# Altium integrated library Motorola Microcontroller 16-Bit.IntLib: 323 symbols (part 7 of 22)
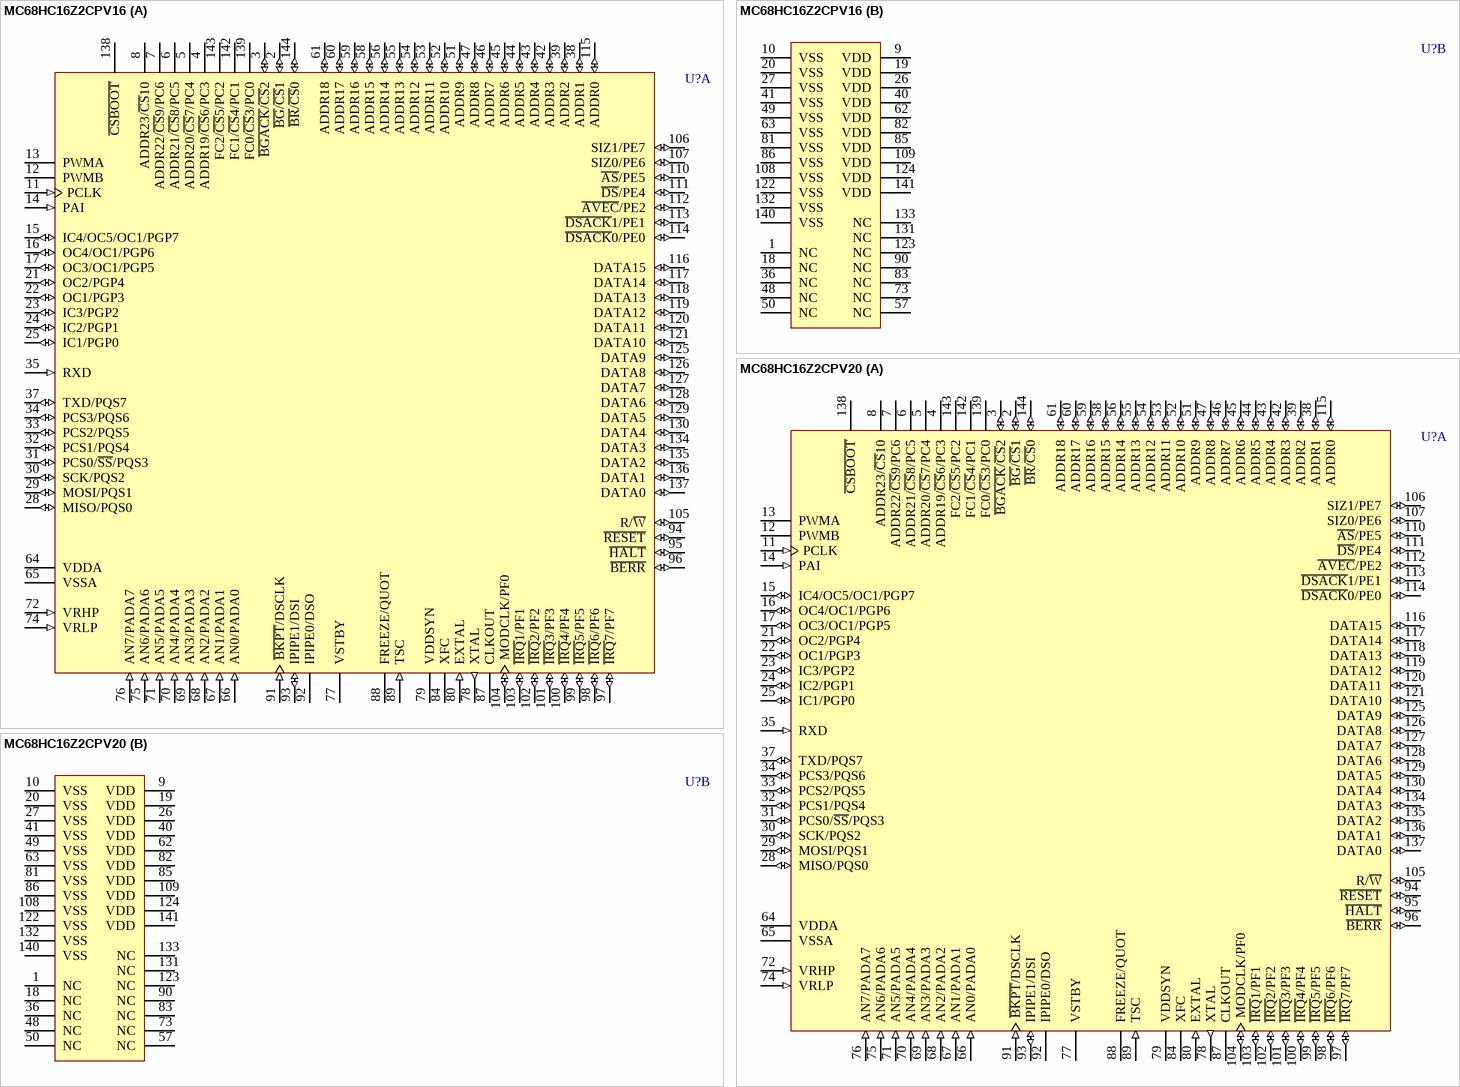
[diagram p147: symbols MC68HC16Z2CPV16 to MC68HC16Z2CPV20]

## MC68HC16Z2CPV16
designator U?
M68HC16 Z-Series MCU; Published: 21-Mar-2003; LatestRevisionDate: 13-Apr-2006; LatestRevisionNote: IPC-7351 Footprint Added.; DatasheetVersion: Oct-1997; PackageVersion: 1997; PackageReference: 918; Publisher: Altium Limited; PackageDescription: 144-Pin Thin Quad Flat Pack 0.5 mm Pitch; ComponentLink1Description: Manufacturer Link; ComponentLink1URL: http://www.freescale.com/; ComponentLink2Description: Datasheet; ComponentLink2URL: http://www.freescale.com/files/microcontrollers/doc/user_guide/MC68HC16ZUM.pdf; ComponentLink3Description: Instruction Set; ComponentLink3URL: http://www.freescale.com/files/microcontrollers/doc/ref_manual/CPU16RM.pdf
footprint 918_N (Thin QFP, 144-Leads, Body 20x20mm, Pitch 0.5mm, IPC Medium Density)
footprint 918_L (Thin QFP, 144-Leads, Body 20x20mm, Pitch 0.5mm, IPC High Density)
footprint 918_M (Thin QFP, 144-Leads, Body 20x20mm, Pitch 0.5mm, IPC Low Density)
3D model MC68HC16-918 (144-Pin Thin Quad Flat Pack 0.5 mm Pitch)
part A pins: 2 ~{BG}/~{CS}1 (io), 3 ~{BGACK}/~{CS}2 (io), 4 ADDR19/~{CS}6/PC3 (hiz), 5 ADDR20/~{CS}7/PC4 (hiz), 6 ADDR21/~{CS}8/PC5 (hiz), 7 ADDR22/~{CS}9/PC6 (hiz), 8 ADDR23/~{CS}10 (hiz), 11 PCLK (in), 12 PWMB (hiz), 13 PWMA (hiz), 14 PAI (in), 15 IC4/OC5/OC1/PGP7 (io), 16 OC4/OC1/PGP6 (io), 17 OC3/OC1/PGP5 (io), 21 OC2/PGP4 (io), 22 OC1/PGP3 (io), 23 IC3/PGP2 (io), 24 IC2/PGP1 (io), 25 IC1/PGP0 (io), 28 MISO/PQS0 (io), 29 MOSI/PQS1 (io), 30 SCK/PQS2 (io), 31 PCS0/~{SS}/PQS3 (io), 32 PCS1/PQS4 (io), 33 PCS2/PQS5 (io), 34 PCS3/PQS6 (io), 35 RXD (in), 37 TXD/PQS7 (io), 38 ADDR1 (io), 39 ADDR2 (io), 42 ADDR3 (io), 43 ADDR4 (io), 44 ADDR5 (io), 45 ADDR6 (io), 46 ADDR7 (io), 47 ADDR8 (io), 51 ADDR9 (io), 52 ADDR10 (io), 53 ADDR11 (io), 54 ADDR12 (io), 55 ADDR13 (io), 56 ADDR14 (io), 58 ADDR15 (io), 59 ADDR16 (io), 60 ADDR17 (io), 61 ADDR18 (io), 64 VDDA (power), 65 VSSA (power), 66 AN0/PADA0 (in), 67 AN1/PADA1 (in), 68 AN2/PADA2 (in), 69 AN3/PADA3 (in), 70 AN4/PADA4 (in), 71 AN5/PADA5 (in), 72 VRHP (in), 74 VRLP (in), 75 AN6/PADA6 (in), 76 AN7/PADA7 (in), 77 VSTBY (power), 78 XTAL (out), 79 VDDSYN (power), 80 EXTAL (in), 84 XFC, 87 CLKOUT (hiz), 88 FREEZE/QUOT (hiz), 89 TSC (in), 91 ~{BKPT}/DSCLK (in), 92 IPIPE0/DSO (hiz), 93 IPIPE1/DSI (io), 94 ~{RESET} (io), 95 ~{HALT} (io), 96 ~{BERR} (io), 97 ~{IRQ}7/PF7 (io), 98 ~{IRQ}6/PF6 (io), 99 ~{IRQ}5/PF5 (io), 100 ~{IRQ}4/PF4 (io), 101 ~{IRQ}3/PF3 (io), 102 ~{IRQ}2/PF2 (io), 103 ~{IRQ}1/PF1 (io), 104 MODCLK/PF0 (io), 105 R/~{W} (io), 106 SIZ1/PE7 (io), 107 SIZ0/PE6 (io), 110 ~{AS}/PE5 (io), 111 ~{DS}/PE4 (io), 112 ~{AVEC}/PE2 (io), 113 ~{DSACK}1/PE1 (io), 114 ~{DSACK}0/PE0 (io), 115 ADDR0 (io), 116 DATA15 (io), 117 DATA14 (io), 118 DATA13 (io), 119 DATA12 (io), 120 DATA11 (io), 121 DATA10 (io), 125 DATA9 (io), 126 DATA8 (io), 127 DATA7 (io), 128 DATA6 (io), 129 DATA5 (io), 130 DATA4 (io), 134 DATA3 (io), 135 DATA2 (io), 136 DATA1 (io), 137 DATA0 (io), 138 ~{CSBOOT} (hiz), 139 FC0/~{CS}3/PC0 (hiz), 142 FC1/~{CS}4/PC1 (hiz), 143 FC2/~{CS}5/PC2 (hiz), 144 ~{BR}/~{CS}0 (io)
part B pins: 1 NC, 9 VDD (power), 10 VSS (power), 18 NC, 19 VDD (power), 20 VSS (power), 26 VDD (power), 27 VSS (power), 36 NC, 40 VDD (power), 41 VSS (power), 48 NC, 49 VSS (power), 50 NC, 57 NC, 62 VDD (power), 63 VSS (power), 73 NC, 81 VSS (power), 82 VDD (power), 83 NC, 85 VDD (power), 86 VSS (power), 90 NC, 108 VSS (power), 109 VDD (power), 122 VSS (power), 123 NC, 124 VDD (power), 131 NC, 132 VSS (power), 133 NC, 140 VSS (power), 141 VDD (power)

## MC68HC16Z2CPV20
designator U?
M68HC16 Z-Series MCU; Published: 21-Mar-2003; LatestRevisionDate: 13-Apr-2006; LatestRevisionNote: IPC-7351 Footprint Added.; DatasheetVersion: Oct-1997; PackageVersion: 1997; PackageReference: 918; Publisher: Altium Limited; PackageDescription: 144-Pin Thin Quad Flat Pack 0.5 mm Pitch; ComponentLink1Description: Manufacturer Link; ComponentLink1URL: http://www.freescale.com/; ComponentLink2Description: Datasheet; ComponentLink2URL: http://www.freescale.com/files/microcontrollers/doc/user_guide/MC68HC16ZUM.pdf; ComponentLink3Description: Instruction Set; ComponentLink3URL: http://www.freescale.com/files/microcontrollers/doc/ref_manual/CPU16RM.pdf
footprint 918_N (Thin QFP, 144-Leads, Body 20x20mm, Pitch 0.5mm, IPC Medium Density)
footprint 918_L (Thin QFP, 144-Leads, Body 20x20mm, Pitch 0.5mm, IPC High Density)
footprint 918_M (Thin QFP, 144-Leads, Body 20x20mm, Pitch 0.5mm, IPC Low Density)
3D model MC68HC16-918 (144-Pin Thin Quad Flat Pack 0.5 mm Pitch)
part A pins: 2 ~{BG}/~{CS}1 (io), 3 ~{BGACK}/~{CS}2 (io), 4 ADDR19/~{CS}6/PC3 (hiz), 5 ADDR20/~{CS}7/PC4 (hiz), 6 ADDR21/~{CS}8/PC5 (hiz), 7 ADDR22/~{CS}9/PC6 (hiz), 8 ADDR23/~{CS}10 (hiz), 11 PCLK (in), 12 PWMB (hiz), 13 PWMA (hiz), 14 PAI (in), 15 IC4/OC5/OC1/PGP7 (io), 16 OC4/OC1/PGP6 (io), 17 OC3/OC1/PGP5 (io), 21 OC2/PGP4 (io), 22 OC1/PGP3 (io), 23 IC3/PGP2 (io), 24 IC2/PGP1 (io), 25 IC1/PGP0 (io), 28 MISO/PQS0 (io), 29 MOSI/PQS1 (io), 30 SCK/PQS2 (io), 31 PCS0/~{SS}/PQS3 (io), 32 PCS1/PQS4 (io), 33 PCS2/PQS5 (io), 34 PCS3/PQS6 (io), 35 RXD (in), 37 TXD/PQS7 (io), 38 ADDR1 (io), 39 ADDR2 (io), 42 ADDR3 (io), 43 ADDR4 (io), 44 ADDR5 (io), 45 ADDR6 (io), 46 ADDR7 (io), 47 ADDR8 (io), 51 ADDR9 (io), 52 ADDR10 (io), 53 ADDR11 (io), 54 ADDR12 (io), 55 ADDR13 (io), 56 ADDR14 (io), 58 ADDR15 (io), 59 ADDR16 (io), 60 ADDR17 (io), 61 ADDR18 (io), 64 VDDA (power), 65 VSSA (power), 66 AN0/PADA0 (in), 67 AN1/PADA1 (in), 68 AN2/PADA2 (in), 69 AN3/PADA3 (in), 70 AN4/PADA4 (in), 71 AN5/PADA5 (in), 72 VRHP (in), 74 VRLP (in), 75 AN6/PADA6 (in), 76 AN7/PADA7 (in), 77 VSTBY (power), 78 XTAL (out), 79 VDDSYN (power), 80 EXTAL (in), 84 XFC, 87 CLKOUT (hiz), 88 FREEZE/QUOT (hiz), 89 TSC (in), 91 ~{BKPT}/DSCLK (in), 92 IPIPE0/DSO (hiz), 93 IPIPE1/DSI (io), 94 ~{RESET} (io), 95 ~{HALT} (io), 96 ~{BERR} (io), 97 ~{IRQ}7/PF7 (io), 98 ~{IRQ}6/PF6 (io), 99 ~{IRQ}5/PF5 (io), 100 ~{IRQ}4/PF4 (io), 101 ~{IRQ}3/PF3 (io), 102 ~{IRQ}2/PF2 (io), 103 ~{IRQ}1/PF1 (io), 104 MODCLK/PF0 (io), 105 R/~{W} (io), 106 SIZ1/PE7 (io), 107 SIZ0/PE6 (io), 110 ~{AS}/PE5 (io), 111 ~{DS}/PE4 (io), 112 ~{AVEC}/PE2 (io), 113 ~{DSACK}1/PE1 (io), 114 ~{DSACK}0/PE0 (io), 115 ADDR0 (io), 116 DATA15 (io), 117 DATA14 (io), 118 DATA13 (io), 119 DATA12 (io), 120 DATA11 (io), 121 DATA10 (io), 125 DATA9 (io), 126 DATA8 (io), 127 DATA7 (io), 128 DATA6 (io), 129 DATA5 (io), 130 DATA4 (io), 134 DATA3 (io), 135 DATA2 (io), 136 DATA1 (io), 137 DATA0 (io), 138 ~{CSBOOT} (hiz), 139 FC0/~{CS}3/PC0 (hiz), 142 FC1/~{CS}4/PC1 (hiz), 143 FC2/~{CS}5/PC2 (hiz), 144 ~{BR}/~{CS}0 (io)
part B pins: 1 NC, 9 VDD (power), 10 VSS (power), 18 NC, 19 VDD (power), 20 VSS (power), 26 VDD (power), 27 VSS (power), 36 NC, 40 VDD (power), 41 VSS (power), 48 NC, 49 VSS (power), 50 NC, 57 NC, 62 VDD (power), 63 VSS (power), 73 NC, 81 VSS (power), 82 VDD (power), 83 NC, 85 VDD (power), 86 VSS (power), 90 NC, 108 VSS (power), 109 VDD (power), 122 VSS (power), 123 NC, 124 VDD (power), 131 NC, 132 VSS (power), 133 NC, 140 VSS (power), 141 VDD (power)

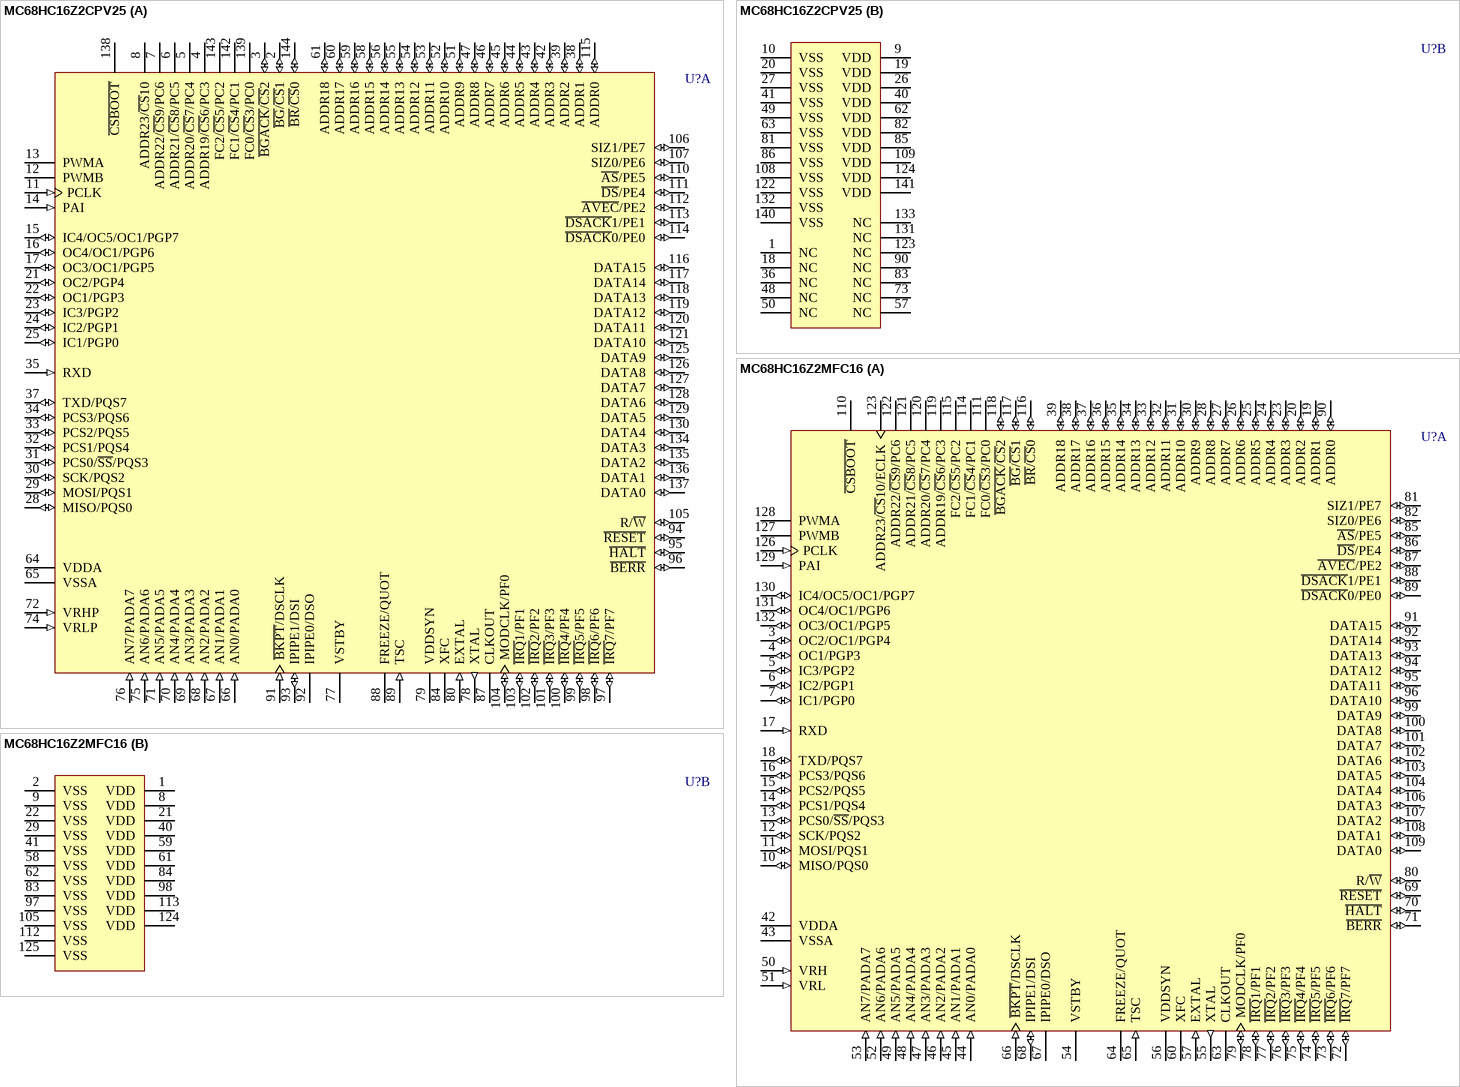
[diagram p30: symbols MC68HC16Z2CPV25 to MC68HC16Z2MFC16]

## MC68HC16Z2CPV25
designator U?
M68HC16 Z-Series MCU; Published: 21-Mar-2003; LatestRevisionDate: 13-Apr-2006; LatestRevisionNote: IPC-7351 Footprint Added.; DatasheetVersion: Oct-1997; PackageVersion: 1997; PackageReference: 918; Publisher: Altium Limited; PackageDescription: 144-Pin Thin Quad Flat Pack 0.5 mm Pitch; ComponentLink1Description: Manufacturer Link; ComponentLink1URL: http://www.freescale.com/; ComponentLink2Description: Datasheet; ComponentLink2URL: http://www.freescale.com/files/microcontrollers/doc/user_guide/MC68HC16ZUM.pdf; ComponentLink3Description: Instruction Set; ComponentLink3URL: http://www.freescale.com/files/microcontrollers/doc/ref_manual/CPU16RM.pdf
footprint 918_N (Thin QFP, 144-Leads, Body 20x20mm, Pitch 0.5mm, IPC Medium Density)
footprint 918_L (Thin QFP, 144-Leads, Body 20x20mm, Pitch 0.5mm, IPC High Density)
footprint 918_M (Thin QFP, 144-Leads, Body 20x20mm, Pitch 0.5mm, IPC Low Density)
3D model MC68HC16-918 (144-Pin Thin Quad Flat Pack 0.5 mm Pitch)
part A pins: 2 ~{BG}/~{CS}1 (io), 3 ~{BGACK}/~{CS}2 (io), 4 ADDR19/~{CS}6/PC3 (hiz), 5 ADDR20/~{CS}7/PC4 (hiz), 6 ADDR21/~{CS}8/PC5 (hiz), 7 ADDR22/~{CS}9/PC6 (hiz), 8 ADDR23/~{CS}10 (hiz), 11 PCLK (in), 12 PWMB (hiz), 13 PWMA (hiz), 14 PAI (in), 15 IC4/OC5/OC1/PGP7 (io), 16 OC4/OC1/PGP6 (io), 17 OC3/OC1/PGP5 (io), 21 OC2/PGP4 (io), 22 OC1/PGP3 (io), 23 IC3/PGP2 (io), 24 IC2/PGP1 (io), 25 IC1/PGP0 (io), 28 MISO/PQS0 (io), 29 MOSI/PQS1 (io), 30 SCK/PQS2 (io), 31 PCS0/~{SS}/PQS3 (io), 32 PCS1/PQS4 (io), 33 PCS2/PQS5 (io), 34 PCS3/PQS6 (io), 35 RXD (in), 37 TXD/PQS7 (io), 38 ADDR1 (io), 39 ADDR2 (io), 42 ADDR3 (io), 43 ADDR4 (io), 44 ADDR5 (io), 45 ADDR6 (io), 46 ADDR7 (io), 47 ADDR8 (io), 51 ADDR9 (io), 52 ADDR10 (io), 53 ADDR11 (io), 54 ADDR12 (io), 55 ADDR13 (io), 56 ADDR14 (io), 58 ADDR15 (io), 59 ADDR16 (io), 60 ADDR17 (io), 61 ADDR18 (io), 64 VDDA (power), 65 VSSA (power), 66 AN0/PADA0 (in), 67 AN1/PADA1 (in), 68 AN2/PADA2 (in), 69 AN3/PADA3 (in), 70 AN4/PADA4 (in), 71 AN5/PADA5 (in), 72 VRHP (in), 74 VRLP (in), 75 AN6/PADA6 (in), 76 AN7/PADA7 (in), 77 VSTBY (power), 78 XTAL (out), 79 VDDSYN (power), 80 EXTAL (in), 84 XFC, 87 CLKOUT (hiz), 88 FREEZE/QUOT (hiz), 89 TSC (in), 91 ~{BKPT}/DSCLK (in), 92 IPIPE0/DSO (hiz), 93 IPIPE1/DSI (io), 94 ~{RESET} (io), 95 ~{HALT} (io), 96 ~{BERR} (io), 97 ~{IRQ}7/PF7 (io), 98 ~{IRQ}6/PF6 (io), 99 ~{IRQ}5/PF5 (io), 100 ~{IRQ}4/PF4 (io), 101 ~{IRQ}3/PF3 (io), 102 ~{IRQ}2/PF2 (io), 103 ~{IRQ}1/PF1 (io), 104 MODCLK/PF0 (io), 105 R/~{W} (io), 106 SIZ1/PE7 (io), 107 SIZ0/PE6 (io), 110 ~{AS}/PE5 (io), 111 ~{DS}/PE4 (io), 112 ~{AVEC}/PE2 (io), 113 ~{DSACK}1/PE1 (io), 114 ~{DSACK}0/PE0 (io), 115 ADDR0 (io), 116 DATA15 (io), 117 DATA14 (io), 118 DATA13 (io), 119 DATA12 (io), 120 DATA11 (io), 121 DATA10 (io), 125 DATA9 (io), 126 DATA8 (io), 127 DATA7 (io), 128 DATA6 (io), 129 DATA5 (io), 130 DATA4 (io), 134 DATA3 (io), 135 DATA2 (io), 136 DATA1 (io), 137 DATA0 (io), 138 ~{CSBOOT} (hiz), 139 FC0/~{CS}3/PC0 (hiz), 142 FC1/~{CS}4/PC1 (hiz), 143 FC2/~{CS}5/PC2 (hiz), 144 ~{BR}/~{CS}0 (io)
part B pins: 1 NC, 9 VDD (power), 10 VSS (power), 18 NC, 19 VDD (power), 20 VSS (power), 26 VDD (power), 27 VSS (power), 36 NC, 40 VDD (power), 41 VSS (power), 48 NC, 49 VSS (power), 50 NC, 57 NC, 62 VDD (power), 63 VSS (power), 73 NC, 81 VSS (power), 82 VDD (power), 83 NC, 85 VDD (power), 86 VSS (power), 90 NC, 108 VSS (power), 109 VDD (power), 122 VSS (power), 123 NC, 124 VDD (power), 131 NC, 132 VSS (power), 133 NC, 140 VSS (power), 141 VDD (power)

## MC68HC16Z2MFC16
designator U?
M68HC16 Z-Series MCU; Published: 21-Mar-2003; DatasheetVersion: Oct-1997; PackageVersion: 1997; PackageReference: 831A-01; Publisher: Altium Limited; PackageDescription: PQFP; 132 Leads; Body 24 x 24 mm; Pitch 0.635 mm; ComponentLink1Description: Manufacturer Link; ComponentLink1URL: http://www.freescale.com/; ComponentLink2Description: Datasheet; ComponentLink2URL: http://www.freescale.com/files/microcontrollers/doc/user_guide/MC68HC16ZUM.pdf; ComponentLink3Description: Instruction Set; ComponentLink3URL: http://www.freescale.com/files/microcontrollers/doc/ref_manual/CPU16RM.pdf
footprint 831A-01 (PQFP; 132 Leads; Body 24 x 24 mm; Pitch 0.635 mm)
part A pins: 3 OC2/OC1/PGP4 (io), 4 OC1/PGP3 (io), 5 IC3/PGP2 (io), 6 IC2/PGP1 (io), 7 IC1/PGP0 (io), 10 MISO/PQS0 (io), 11 MOSI/PQS1 (io), 12 SCK/PQS2 (io), 13 PCS0/~{SS}/PQS3 (io), 14 PCS1/PQS4 (io), 15 PCS2/PQS5 (io), 16 PCS3/PQS6 (io), 17 RXD (in), 18 TXD/PQS7 (io), 19 ADDR1 (io), 20 ADDR2 (io), 23 ADDR3 (io), 24 ADDR4 (io), 25 ADDR5 (io), 26 ADDR6 (io), 27 ADDR7 (io), 28 ADDR8 (io), 30 ADDR9 (io), 31 ADDR10 (io), 32 ADDR11 (io), 33 ADDR12 (io), 34 ADDR13 (io), 35 ADDR14 (io), 36 ADDR15 (io), 37 ADDR16 (io), 38 ADDR17 (io), 39 ADDR18 (io), 42 VDDA (power), 43 VSSA (power), 44 AN0/PADA0 (in), 45 AN1/PADA1 (in), 46 AN2/PADA2 (in), 47 AN3/PADA3 (in), 48 AN4/PADA4 (in), 49 AN5/PADA5 (in), 50 VRH (in), 51 VRL (in), 52 AN6/PADA6 (in), 53 AN7/PADA7 (in), 54 VSTBY (power), 55 XTAL (out), 56 VDDSYN (power), 57 EXTAL (in), 60 XFC, 63 CLKOUT (hiz), 64 FREEZE/QUOT (hiz), 65 TSC (in), 66 ~{BKPT}/DSCLK (in), 67 IPIPE0/DSO (hiz), 68 IPIPE1/DSI (io), 69 ~{RESET} (io), 70 ~{HALT} (io), 71 ~{BERR} (io), 72 ~{IRQ}7/PF7 (io), 73 ~{IRQ}6/PF6 (io), 74 ~{IRQ}5/PF5 (io), 75 ~{IRQ}4/PF4 (io), 76 ~{IRQ}3/PF3 (io), 77 ~{IRQ}2/PF2 (io), 78 ~{IRQ}1/PF1 (io), 79 MODCLK/PF0 (io), 80 R/~{W} (io), 81 SIZ1/PE7 (io), 82 SIZ0/PE6 (io), 85 ~{AS}/PE5 (io), 86 ~{DS}/PE4 (io), 87 ~{AVEC}/PE2 (io), 88 ~{DSACK}1/PE1 (io), 89 ~{DSACK}0/PE0 (io), 90 ADDR0 (io), 91 DATA15 (io), 92 DATA14 (io), 93 DATA13 (io), 94 DATA12 (io), 95 DATA11 (io), 96 DATA10 (io), 99 DATA9 (io), 100 DATA8 (io), 101 DATA7 (io), 102 DATA6 (io), 103 DATA5 (io), 104 DATA4 (io), 106 DATA3 (io), 107 DATA2 (io), 108 DATA1 (io), 109 DATA0 (io), 110 ~{CSBOOT} (hiz), 111 FC0/~{CS}3/PC0 (hiz), 114 FC1/~{CS}4/PC1 (hiz), 115 FC2/~{CS}5/PC2 (hiz), 116 ~{BR}/~{CS}0 (io), 117 ~{BG}/~{CS}1 (io), 118 ~{BGACK}/~{CS}2 (io), 119 ADDR19/~{CS}6/PC3 (hiz), 120 ADDR20/~{CS}7/PC4 (hiz), 121 ADDR21/~{CS}8/PC5 (hiz), 122 ADDR22/~{CS}9/PC6 (hiz), 123 ADDR23/~{CS}10/ECLK (hiz), 126 PCLK (in), 127 PWMB (hiz), 128 PWMA (hiz), 129 PAI (in), 130 IC4/OC5/OC1/PGP7 (io), 131 OC4/OC1/PGP6 (io), 132 OC3/OC1/PGP5 (io)
part B pins: 1 VDD (power), 2 VSS (power), 8 VDD (power), 9 VSS (power), 21 VDD (power), 22 VSS (power), 29 VSS (power), 40 VDD (power), 41 VSS (power), 58 VSS (power), 59 VDD (power), 61 VDD (power), 62 VSS (power), 83 VSS (power), 84 VDD (power), 97 VSS (power), 98 VDD (power), 105 VSS (power), 112 VSS (power), 113 VDD (power), 124 VDD (power), 125 VSS (power)

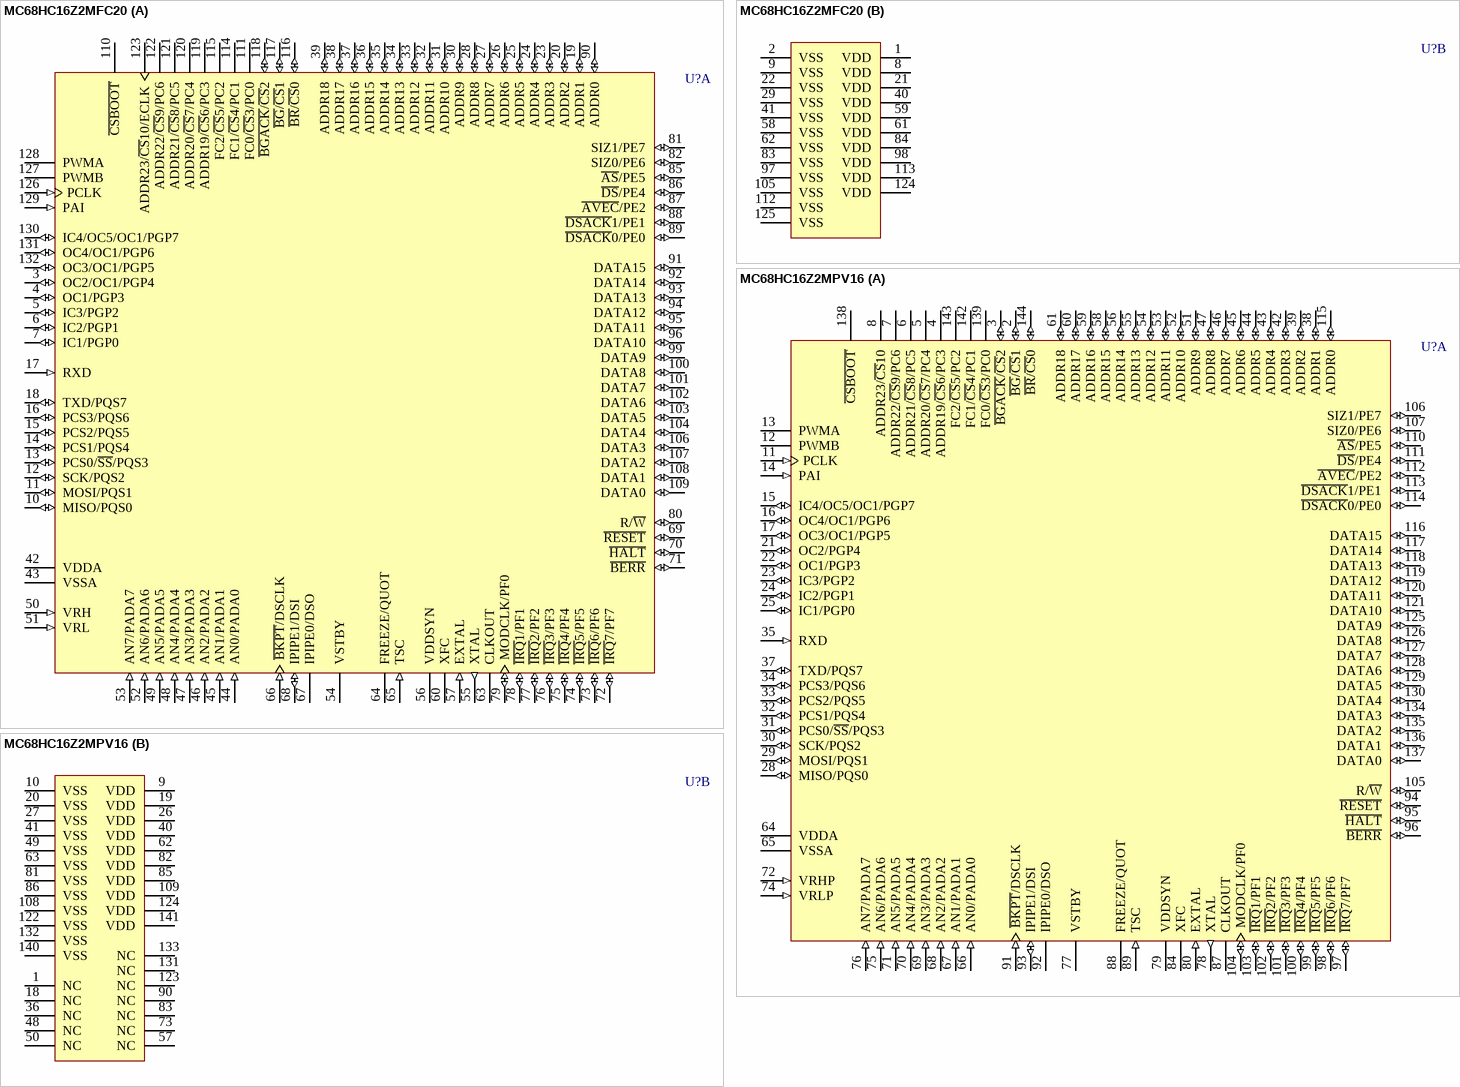
[diagram p31: symbols MC68HC16Z2MFC20 to MC68HC16Z2MPV16]

## MC68HC16Z2MFC20
designator U?
M68HC16 Z-Series MCU; Published: 21-Mar-2003; DatasheetVersion: Oct-1997; PackageVersion: 1997; PackageReference: 831A-01; Publisher: Altium Limited; PackageDescription: PQFP; 132 Leads; Body 24 x 24 mm; Pitch 0.635 mm; ComponentLink1Description: Manufacturer Link; ComponentLink1URL: http://www.freescale.com/; ComponentLink2Description: Datasheet; ComponentLink2URL: http://www.freescale.com/files/microcontrollers/doc/user_guide/MC68HC16ZUM.pdf; ComponentLink3Description: Instruction Set; ComponentLink3URL: http://www.freescale.com/files/microcontrollers/doc/ref_manual/CPU16RM.pdf
footprint 831A-01 (PQFP; 132 Leads; Body 24 x 24 mm; Pitch 0.635 mm)
part A pins: 3 OC2/OC1/PGP4 (io), 4 OC1/PGP3 (io), 5 IC3/PGP2 (io), 6 IC2/PGP1 (io), 7 IC1/PGP0 (io), 10 MISO/PQS0 (io), 11 MOSI/PQS1 (io), 12 SCK/PQS2 (io), 13 PCS0/~{SS}/PQS3 (io), 14 PCS1/PQS4 (io), 15 PCS2/PQS5 (io), 16 PCS3/PQS6 (io), 17 RXD (in), 18 TXD/PQS7 (io), 19 ADDR1 (io), 20 ADDR2 (io), 23 ADDR3 (io), 24 ADDR4 (io), 25 ADDR5 (io), 26 ADDR6 (io), 27 ADDR7 (io), 28 ADDR8 (io), 30 ADDR9 (io), 31 ADDR10 (io), 32 ADDR11 (io), 33 ADDR12 (io), 34 ADDR13 (io), 35 ADDR14 (io), 36 ADDR15 (io), 37 ADDR16 (io), 38 ADDR17 (io), 39 ADDR18 (io), 42 VDDA (power), 43 VSSA (power), 44 AN0/PADA0 (in), 45 AN1/PADA1 (in), 46 AN2/PADA2 (in), 47 AN3/PADA3 (in), 48 AN4/PADA4 (in), 49 AN5/PADA5 (in), 50 VRH (in), 51 VRL (in), 52 AN6/PADA6 (in), 53 AN7/PADA7 (in), 54 VSTBY (power), 55 XTAL (out), 56 VDDSYN (power), 57 EXTAL (in), 60 XFC, 63 CLKOUT (hiz), 64 FREEZE/QUOT (hiz), 65 TSC (in), 66 ~{BKPT}/DSCLK (in), 67 IPIPE0/DSO (hiz), 68 IPIPE1/DSI (io), 69 ~{RESET} (io), 70 ~{HALT} (io), 71 ~{BERR} (io), 72 ~{IRQ}7/PF7 (io), 73 ~{IRQ}6/PF6 (io), 74 ~{IRQ}5/PF5 (io), 75 ~{IRQ}4/PF4 (io), 76 ~{IRQ}3/PF3 (io), 77 ~{IRQ}2/PF2 (io), 78 ~{IRQ}1/PF1 (io), 79 MODCLK/PF0 (io), 80 R/~{W} (io), 81 SIZ1/PE7 (io), 82 SIZ0/PE6 (io), 85 ~{AS}/PE5 (io), 86 ~{DS}/PE4 (io), 87 ~{AVEC}/PE2 (io), 88 ~{DSACK}1/PE1 (io), 89 ~{DSACK}0/PE0 (io), 90 ADDR0 (io), 91 DATA15 (io), 92 DATA14 (io), 93 DATA13 (io), 94 DATA12 (io), 95 DATA11 (io), 96 DATA10 (io), 99 DATA9 (io), 100 DATA8 (io), 101 DATA7 (io), 102 DATA6 (io), 103 DATA5 (io), 104 DATA4 (io), 106 DATA3 (io), 107 DATA2 (io), 108 DATA1 (io), 109 DATA0 (io), 110 ~{CSBOOT} (hiz), 111 FC0/~{CS}3/PC0 (hiz), 114 FC1/~{CS}4/PC1 (hiz), 115 FC2/~{CS}5/PC2 (hiz), 116 ~{BR}/~{CS}0 (io), 117 ~{BG}/~{CS}1 (io), 118 ~{BGACK}/~{CS}2 (io), 119 ADDR19/~{CS}6/PC3 (hiz), 120 ADDR20/~{CS}7/PC4 (hiz), 121 ADDR21/~{CS}8/PC5 (hiz), 122 ADDR22/~{CS}9/PC6 (hiz), 123 ADDR23/~{CS}10/ECLK (hiz), 126 PCLK (in), 127 PWMB (hiz), 128 PWMA (hiz), 129 PAI (in), 130 IC4/OC5/OC1/PGP7 (io), 131 OC4/OC1/PGP6 (io), 132 OC3/OC1/PGP5 (io)
part B pins: 1 VDD (power), 2 VSS (power), 8 VDD (power), 9 VSS (power), 21 VDD (power), 22 VSS (power), 29 VSS (power), 40 VDD (power), 41 VSS (power), 58 VSS (power), 59 VDD (power), 61 VDD (power), 62 VSS (power), 83 VSS (power), 84 VDD (power), 97 VSS (power), 98 VDD (power), 105 VSS (power), 112 VSS (power), 113 VDD (power), 124 VDD (power), 125 VSS (power)

## MC68HC16Z2MPV16
designator U?
M68HC16 Z-Series MCU; Published: 21-Mar-2003; LatestRevisionDate: 13-Apr-2006; LatestRevisionNote: IPC-7351 Footprint Added.; DatasheetVersion: Oct-1997; PackageVersion: 1997; PackageReference: 918; Publisher: Altium Limited; PackageDescription: 144-Pin Thin Quad Flat Pack 0.5 mm Pitch; ComponentLink1Description: Manufacturer Link; ComponentLink1URL: http://www.freescale.com/; ComponentLink2Description: Datasheet; ComponentLink2URL: http://www.freescale.com/files/microcontrollers/doc/user_guide/MC68HC16ZUM.pdf; ComponentLink3Description: Instruction Set; ComponentLink3URL: http://www.freescale.com/files/microcontrollers/doc/ref_manual/CPU16RM.pdf
footprint 918_N (Thin QFP, 144-Leads, Body 20x20mm, Pitch 0.5mm, IPC Medium Density)
footprint 918_L (Thin QFP, 144-Leads, Body 20x20mm, Pitch 0.5mm, IPC High Density)
footprint 918_M (Thin QFP, 144-Leads, Body 20x20mm, Pitch 0.5mm, IPC Low Density)
3D model MC68HC16-918 (144-Pin Thin Quad Flat Pack 0.5 mm Pitch)
part A pins: 2 ~{BG}/~{CS}1 (io), 3 ~{BGACK}/~{CS}2 (io), 4 ADDR19/~{CS}6/PC3 (hiz), 5 ADDR20/~{CS}7/PC4 (hiz), 6 ADDR21/~{CS}8/PC5 (hiz), 7 ADDR22/~{CS}9/PC6 (hiz), 8 ADDR23/~{CS}10 (hiz), 11 PCLK (in), 12 PWMB (hiz), 13 PWMA (hiz), 14 PAI (in), 15 IC4/OC5/OC1/PGP7 (io), 16 OC4/OC1/PGP6 (io), 17 OC3/OC1/PGP5 (io), 21 OC2/PGP4 (io), 22 OC1/PGP3 (io), 23 IC3/PGP2 (io), 24 IC2/PGP1 (io), 25 IC1/PGP0 (io), 28 MISO/PQS0 (io), 29 MOSI/PQS1 (io), 30 SCK/PQS2 (io), 31 PCS0/~{SS}/PQS3 (io), 32 PCS1/PQS4 (io), 33 PCS2/PQS5 (io), 34 PCS3/PQS6 (io), 35 RXD (in), 37 TXD/PQS7 (io), 38 ADDR1 (io), 39 ADDR2 (io), 42 ADDR3 (io), 43 ADDR4 (io), 44 ADDR5 (io), 45 ADDR6 (io), 46 ADDR7 (io), 47 ADDR8 (io), 51 ADDR9 (io), 52 ADDR10 (io), 53 ADDR11 (io), 54 ADDR12 (io), 55 ADDR13 (io), 56 ADDR14 (io), 58 ADDR15 (io), 59 ADDR16 (io), 60 ADDR17 (io), 61 ADDR18 (io), 64 VDDA (power), 65 VSSA (power), 66 AN0/PADA0 (in), 67 AN1/PADA1 (in), 68 AN2/PADA2 (in), 69 AN3/PADA3 (in), 70 AN4/PADA4 (in), 71 AN5/PADA5 (in), 72 VRHP (in), 74 VRLP (in), 75 AN6/PADA6 (in), 76 AN7/PADA7 (in), 77 VSTBY (power), 78 XTAL (out), 79 VDDSYN (power), 80 EXTAL (in), 84 XFC, 87 CLKOUT (hiz), 88 FREEZE/QUOT (hiz), 89 TSC (in), 91 ~{BKPT}/DSCLK (in), 92 IPIPE0/DSO (hiz), 93 IPIPE1/DSI (io), 94 ~{RESET} (io), 95 ~{HALT} (io), 96 ~{BERR} (io), 97 ~{IRQ}7/PF7 (io), 98 ~{IRQ}6/PF6 (io), 99 ~{IRQ}5/PF5 (io), 100 ~{IRQ}4/PF4 (io), 101 ~{IRQ}3/PF3 (io), 102 ~{IRQ}2/PF2 (io), 103 ~{IRQ}1/PF1 (io), 104 MODCLK/PF0 (io), 105 R/~{W} (io), 106 SIZ1/PE7 (io), 107 SIZ0/PE6 (io), 110 ~{AS}/PE5 (io), 111 ~{DS}/PE4 (io), 112 ~{AVEC}/PE2 (io), 113 ~{DSACK}1/PE1 (io), 114 ~{DSACK}0/PE0 (io), 115 ADDR0 (io), 116 DATA15 (io), 117 DATA14 (io), 118 DATA13 (io), 119 DATA12 (io), 120 DATA11 (io), 121 DATA10 (io), 125 DATA9 (io), 126 DATA8 (io), 127 DATA7 (io), 128 DATA6 (io), 129 DATA5 (io), 130 DATA4 (io), 134 DATA3 (io), 135 DATA2 (io), 136 DATA1 (io), 137 DATA0 (io), 138 ~{CSBOOT} (hiz), 139 FC0/~{CS}3/PC0 (hiz), 142 FC1/~{CS}4/PC1 (hiz), 143 FC2/~{CS}5/PC2 (hiz), 144 ~{BR}/~{CS}0 (io)
part B pins: 1 NC, 9 VDD (power), 10 VSS (power), 18 NC, 19 VDD (power), 20 VSS (power), 26 VDD (power), 27 VSS (power), 36 NC, 40 VDD (power), 41 VSS (power), 48 NC, 49 VSS (power), 50 NC, 57 NC, 62 VDD (power), 63 VSS (power), 73 NC, 81 VSS (power), 82 VDD (power), 83 NC, 85 VDD (power), 86 VSS (power), 90 NC, 108 VSS (power), 109 VDD (power), 122 VSS (power), 123 NC, 124 VDD (power), 131 NC, 132 VSS (power), 133 NC, 140 VSS (power), 141 VDD (power)

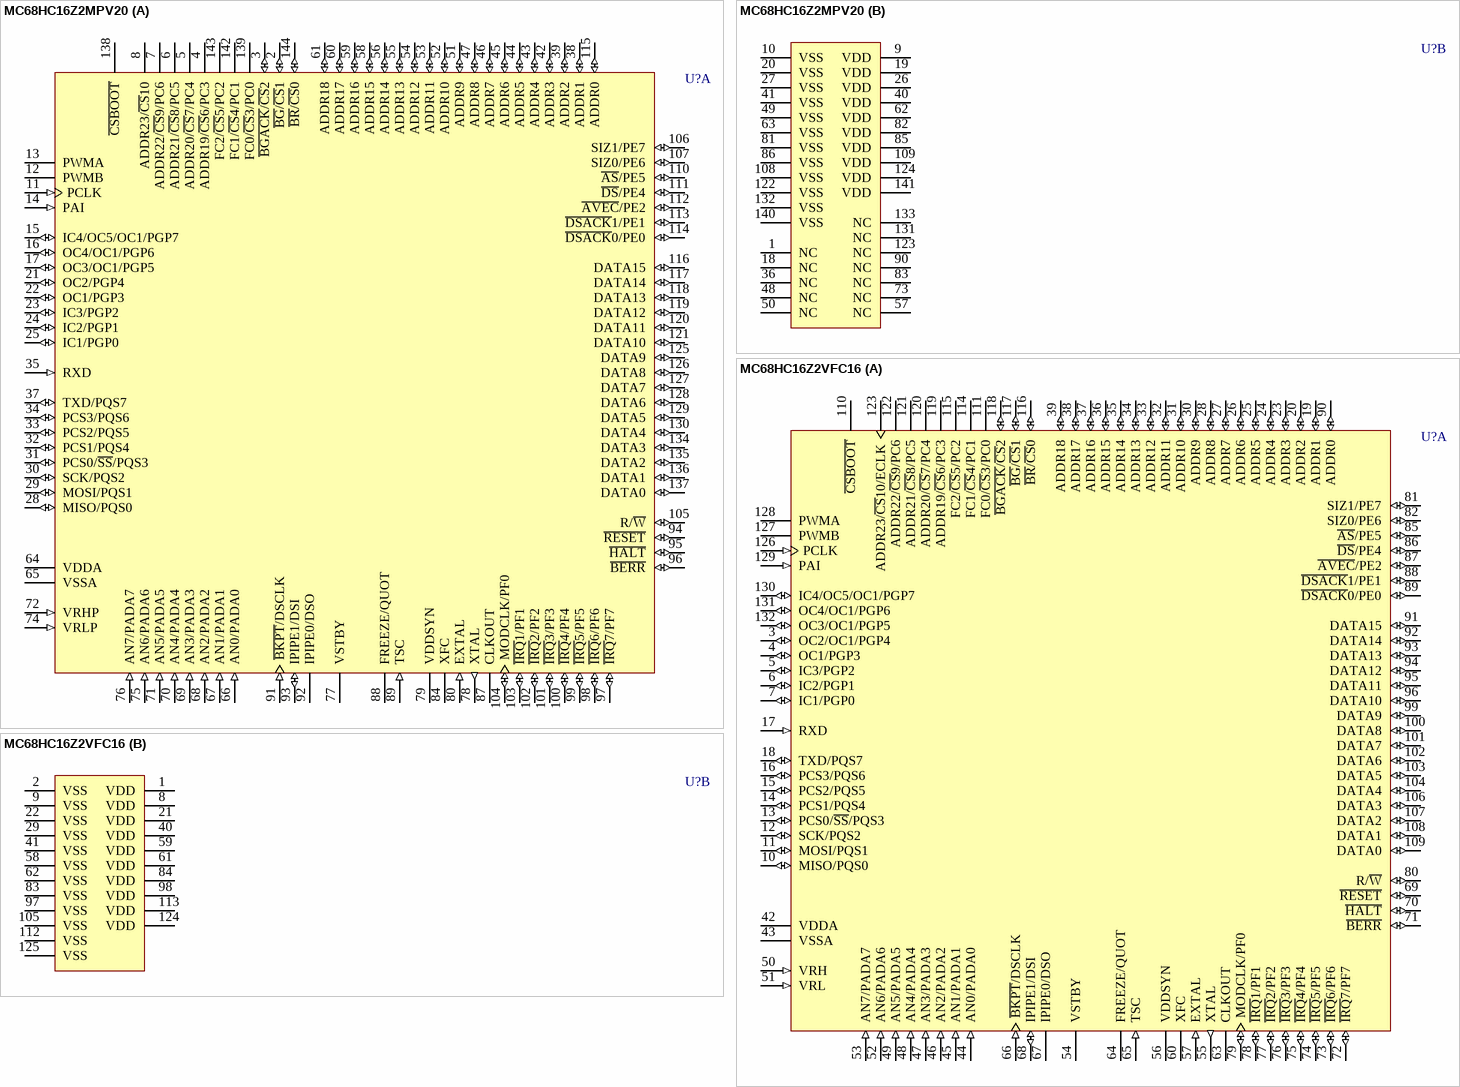
[diagram p32: symbols MC68HC16Z2MPV20 to MC68HC16Z2VFC16]

## MC68HC16Z2MPV20
designator U?
M68HC16 Z-Series MCU; Published: 21-Mar-2003; LatestRevisionDate: 13-Apr-2006; LatestRevisionNote: IPC-7351 Footprint Added.; DatasheetVersion: Oct-1997; PackageVersion: 1997; PackageReference: 918; Publisher: Altium Limited; PackageDescription: 144-Pin Thin Quad Flat Pack 0.5 mm Pitch; ComponentLink1Description: Manufacturer Link; ComponentLink1URL: http://www.freescale.com/; ComponentLink2Description: Datasheet; ComponentLink2URL: http://www.freescale.com/files/microcontrollers/doc/user_guide/MC68HC16ZUM.pdf; ComponentLink3Description: Instruction Set; ComponentLink3URL: http://www.freescale.com/files/microcontrollers/doc/ref_manual/CPU16RM.pdf
footprint 918_N (Thin QFP, 144-Leads, Body 20x20mm, Pitch 0.5mm, IPC Medium Density)
footprint 918_L (Thin QFP, 144-Leads, Body 20x20mm, Pitch 0.5mm, IPC High Density)
footprint 918_M (Thin QFP, 144-Leads, Body 20x20mm, Pitch 0.5mm, IPC Low Density)
3D model MC68HC16-918 (144-Pin Thin Quad Flat Pack 0.5 mm Pitch)
part A pins: 2 ~{BG}/~{CS}1 (io), 3 ~{BGACK}/~{CS}2 (io), 4 ADDR19/~{CS}6/PC3 (hiz), 5 ADDR20/~{CS}7/PC4 (hiz), 6 ADDR21/~{CS}8/PC5 (hiz), 7 ADDR22/~{CS}9/PC6 (hiz), 8 ADDR23/~{CS}10 (hiz), 11 PCLK (in), 12 PWMB (hiz), 13 PWMA (hiz), 14 PAI (in), 15 IC4/OC5/OC1/PGP7 (io), 16 OC4/OC1/PGP6 (io), 17 OC3/OC1/PGP5 (io), 21 OC2/PGP4 (io), 22 OC1/PGP3 (io), 23 IC3/PGP2 (io), 24 IC2/PGP1 (io), 25 IC1/PGP0 (io), 28 MISO/PQS0 (io), 29 MOSI/PQS1 (io), 30 SCK/PQS2 (io), 31 PCS0/~{SS}/PQS3 (io), 32 PCS1/PQS4 (io), 33 PCS2/PQS5 (io), 34 PCS3/PQS6 (io), 35 RXD (in), 37 TXD/PQS7 (io), 38 ADDR1 (io), 39 ADDR2 (io), 42 ADDR3 (io), 43 ADDR4 (io), 44 ADDR5 (io), 45 ADDR6 (io), 46 ADDR7 (io), 47 ADDR8 (io), 51 ADDR9 (io), 52 ADDR10 (io), 53 ADDR11 (io), 54 ADDR12 (io), 55 ADDR13 (io), 56 ADDR14 (io), 58 ADDR15 (io), 59 ADDR16 (io), 60 ADDR17 (io), 61 ADDR18 (io), 64 VDDA (power), 65 VSSA (power), 66 AN0/PADA0 (in), 67 AN1/PADA1 (in), 68 AN2/PADA2 (in), 69 AN3/PADA3 (in), 70 AN4/PADA4 (in), 71 AN5/PADA5 (in), 72 VRHP (in), 74 VRLP (in), 75 AN6/PADA6 (in), 76 AN7/PADA7 (in), 77 VSTBY (power), 78 XTAL (out), 79 VDDSYN (power), 80 EXTAL (in), 84 XFC, 87 CLKOUT (hiz), 88 FREEZE/QUOT (hiz), 89 TSC (in), 91 ~{BKPT}/DSCLK (in), 92 IPIPE0/DSO (hiz), 93 IPIPE1/DSI (io), 94 ~{RESET} (io), 95 ~{HALT} (io), 96 ~{BERR} (io), 97 ~{IRQ}7/PF7 (io), 98 ~{IRQ}6/PF6 (io), 99 ~{IRQ}5/PF5 (io), 100 ~{IRQ}4/PF4 (io), 101 ~{IRQ}3/PF3 (io), 102 ~{IRQ}2/PF2 (io), 103 ~{IRQ}1/PF1 (io), 104 MODCLK/PF0 (io), 105 R/~{W} (io), 106 SIZ1/PE7 (io), 107 SIZ0/PE6 (io), 110 ~{AS}/PE5 (io), 111 ~{DS}/PE4 (io), 112 ~{AVEC}/PE2 (io), 113 ~{DSACK}1/PE1 (io), 114 ~{DSACK}0/PE0 (io), 115 ADDR0 (io), 116 DATA15 (io), 117 DATA14 (io), 118 DATA13 (io), 119 DATA12 (io), 120 DATA11 (io), 121 DATA10 (io), 125 DATA9 (io), 126 DATA8 (io), 127 DATA7 (io), 128 DATA6 (io), 129 DATA5 (io), 130 DATA4 (io), 134 DATA3 (io), 135 DATA2 (io), 136 DATA1 (io), 137 DATA0 (io), 138 ~{CSBOOT} (hiz), 139 FC0/~{CS}3/PC0 (hiz), 142 FC1/~{CS}4/PC1 (hiz), 143 FC2/~{CS}5/PC2 (hiz), 144 ~{BR}/~{CS}0 (io)
part B pins: 1 NC, 9 VDD (power), 10 VSS (power), 18 NC, 19 VDD (power), 20 VSS (power), 26 VDD (power), 27 VSS (power), 36 NC, 40 VDD (power), 41 VSS (power), 48 NC, 49 VSS (power), 50 NC, 57 NC, 62 VDD (power), 63 VSS (power), 73 NC, 81 VSS (power), 82 VDD (power), 83 NC, 85 VDD (power), 86 VSS (power), 90 NC, 108 VSS (power), 109 VDD (power), 122 VSS (power), 123 NC, 124 VDD (power), 131 NC, 132 VSS (power), 133 NC, 140 VSS (power), 141 VDD (power)

## MC68HC16Z2VFC16
designator U?
M68HC16 Z-Series MCU; Published: 21-Mar-2003; DatasheetVersion: Oct-1997; PackageVersion: 1997; PackageReference: 831A-01; Publisher: Altium Limited; PackageDescription: PQFP; 132 Leads; Body 24 x 24 mm; Pitch 0.635 mm; ComponentLink1Description: Manufacturer Link; ComponentLink1URL: http://www.freescale.com/; ComponentLink2Description: Datasheet; ComponentLink2URL: http://www.freescale.com/files/microcontrollers/doc/user_guide/MC68HC16ZUM.pdf; ComponentLink3Description: Instruction Set; ComponentLink3URL: http://www.freescale.com/files/microcontrollers/doc/ref_manual/CPU16RM.pdf
footprint 831A-01 (PQFP; 132 Leads; Body 24 x 24 mm; Pitch 0.635 mm)
part A pins: 3 OC2/OC1/PGP4 (io), 4 OC1/PGP3 (io), 5 IC3/PGP2 (io), 6 IC2/PGP1 (io), 7 IC1/PGP0 (io), 10 MISO/PQS0 (io), 11 MOSI/PQS1 (io), 12 SCK/PQS2 (io), 13 PCS0/~{SS}/PQS3 (io), 14 PCS1/PQS4 (io), 15 PCS2/PQS5 (io), 16 PCS3/PQS6 (io), 17 RXD (in), 18 TXD/PQS7 (io), 19 ADDR1 (io), 20 ADDR2 (io), 23 ADDR3 (io), 24 ADDR4 (io), 25 ADDR5 (io), 26 ADDR6 (io), 27 ADDR7 (io), 28 ADDR8 (io), 30 ADDR9 (io), 31 ADDR10 (io), 32 ADDR11 (io), 33 ADDR12 (io), 34 ADDR13 (io), 35 ADDR14 (io), 36 ADDR15 (io), 37 ADDR16 (io), 38 ADDR17 (io), 39 ADDR18 (io), 42 VDDA (power), 43 VSSA (power), 44 AN0/PADA0 (in), 45 AN1/PADA1 (in), 46 AN2/PADA2 (in), 47 AN3/PADA3 (in), 48 AN4/PADA4 (in), 49 AN5/PADA5 (in), 50 VRH (in), 51 VRL (in), 52 AN6/PADA6 (in), 53 AN7/PADA7 (in), 54 VSTBY (power), 55 XTAL (out), 56 VDDSYN (power), 57 EXTAL (in), 60 XFC, 63 CLKOUT (hiz), 64 FREEZE/QUOT (hiz), 65 TSC (in), 66 ~{BKPT}/DSCLK (in), 67 IPIPE0/DSO (hiz), 68 IPIPE1/DSI (io), 69 ~{RESET} (io), 70 ~{HALT} (io), 71 ~{BERR} (io), 72 ~{IRQ}7/PF7 (io), 73 ~{IRQ}6/PF6 (io), 74 ~{IRQ}5/PF5 (io), 75 ~{IRQ}4/PF4 (io), 76 ~{IRQ}3/PF3 (io), 77 ~{IRQ}2/PF2 (io), 78 ~{IRQ}1/PF1 (io), 79 MODCLK/PF0 (io), 80 R/~{W} (io), 81 SIZ1/PE7 (io), 82 SIZ0/PE6 (io), 85 ~{AS}/PE5 (io), 86 ~{DS}/PE4 (io), 87 ~{AVEC}/PE2 (io), 88 ~{DSACK}1/PE1 (io), 89 ~{DSACK}0/PE0 (io), 90 ADDR0 (io), 91 DATA15 (io), 92 DATA14 (io), 93 DATA13 (io), 94 DATA12 (io), 95 DATA11 (io), 96 DATA10 (io), 99 DATA9 (io), 100 DATA8 (io), 101 DATA7 (io), 102 DATA6 (io), 103 DATA5 (io), 104 DATA4 (io), 106 DATA3 (io), 107 DATA2 (io), 108 DATA1 (io), 109 DATA0 (io), 110 ~{CSBOOT} (hiz), 111 FC0/~{CS}3/PC0 (hiz), 114 FC1/~{CS}4/PC1 (hiz), 115 FC2/~{CS}5/PC2 (hiz), 116 ~{BR}/~{CS}0 (io), 117 ~{BG}/~{CS}1 (io), 118 ~{BGACK}/~{CS}2 (io), 119 ADDR19/~{CS}6/PC3 (hiz), 120 ADDR20/~{CS}7/PC4 (hiz), 121 ADDR21/~{CS}8/PC5 (hiz), 122 ADDR22/~{CS}9/PC6 (hiz), 123 ADDR23/~{CS}10/ECLK (hiz), 126 PCLK (in), 127 PWMB (hiz), 128 PWMA (hiz), 129 PAI (in), 130 IC4/OC5/OC1/PGP7 (io), 131 OC4/OC1/PGP6 (io), 132 OC3/OC1/PGP5 (io)
part B pins: 1 VDD (power), 2 VSS (power), 8 VDD (power), 9 VSS (power), 21 VDD (power), 22 VSS (power), 29 VSS (power), 40 VDD (power), 41 VSS (power), 58 VSS (power), 59 VDD (power), 61 VDD (power), 62 VSS (power), 83 VSS (power), 84 VDD (power), 97 VSS (power), 98 VDD (power), 105 VSS (power), 112 VSS (power), 113 VDD (power), 124 VDD (power), 125 VSS (power)

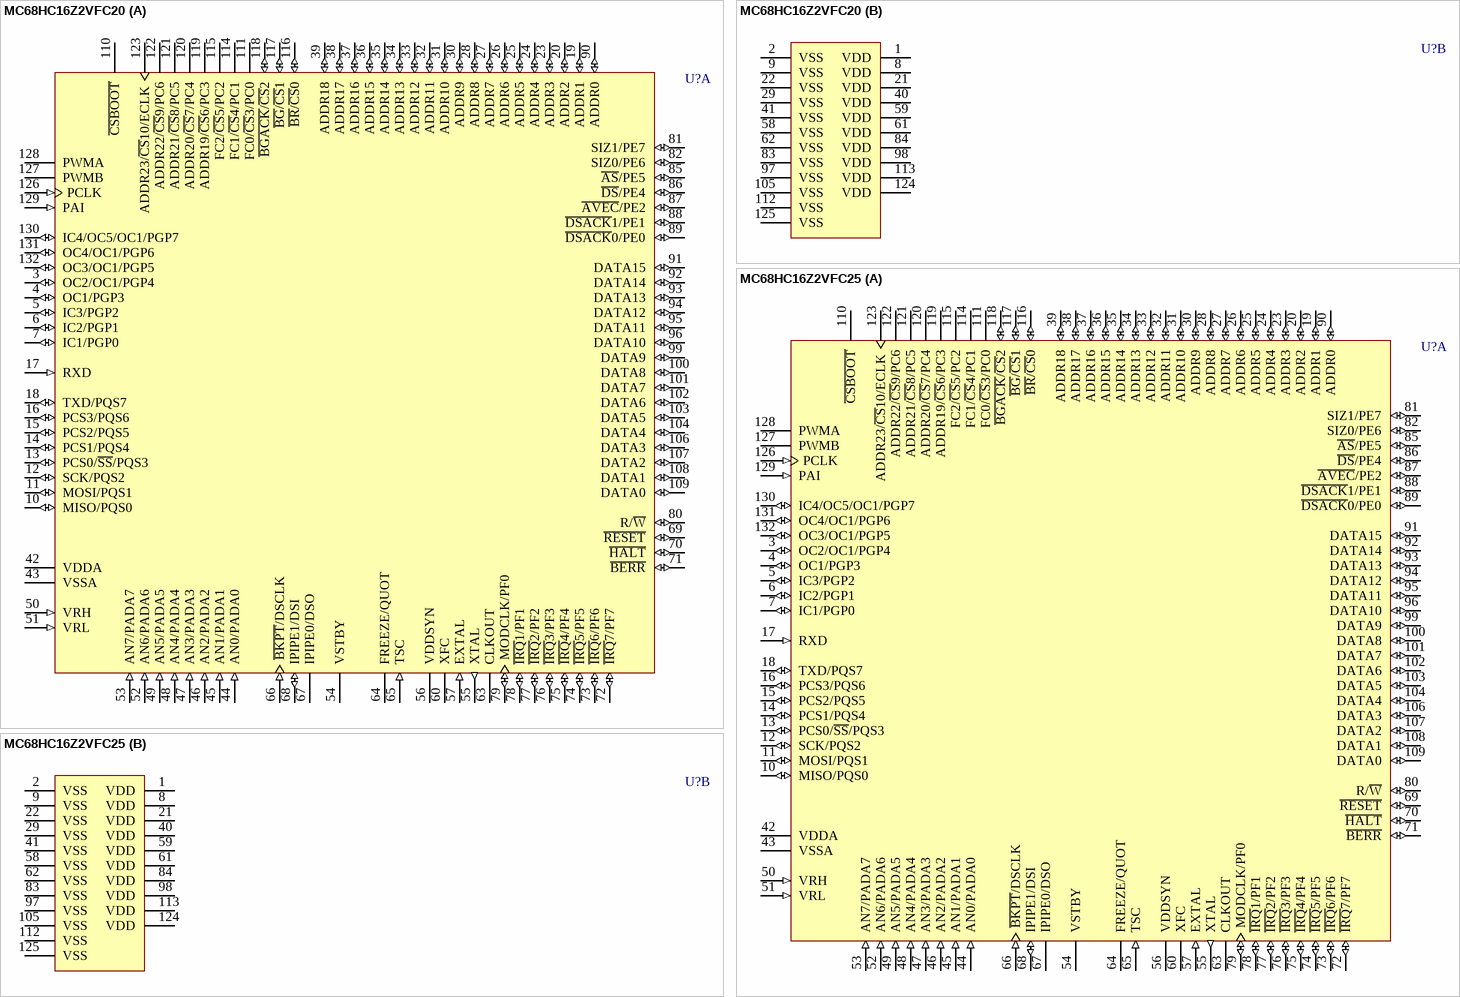
[diagram p33: symbols MC68HC16Z2VFC20 to MC68HC16Z2VFC25]

## MC68HC16Z2VFC20
designator U?
M68HC16 Z-Series MCU; Published: 21-Mar-2003; DatasheetVersion: Oct-1997; PackageVersion: 1997; PackageReference: 831A-01; Publisher: Altium Limited; PackageDescription: PQFP; 132 Leads; Body 24 x 24 mm; Pitch 0.635 mm; ComponentLink1Description: Manufacturer Link; ComponentLink1URL: http://www.freescale.com/; ComponentLink2Description: Datasheet; ComponentLink2URL: http://www.freescale.com/files/microcontrollers/doc/user_guide/MC68HC16ZUM.pdf; ComponentLink3Description: Instruction Set; ComponentLink3URL: http://www.freescale.com/files/microcontrollers/doc/ref_manual/CPU16RM.pdf
footprint 831A-01 (PQFP; 132 Leads; Body 24 x 24 mm; Pitch 0.635 mm)
part A pins: 3 OC2/OC1/PGP4 (io), 4 OC1/PGP3 (io), 5 IC3/PGP2 (io), 6 IC2/PGP1 (io), 7 IC1/PGP0 (io), 10 MISO/PQS0 (io), 11 MOSI/PQS1 (io), 12 SCK/PQS2 (io), 13 PCS0/~{SS}/PQS3 (io), 14 PCS1/PQS4 (io), 15 PCS2/PQS5 (io), 16 PCS3/PQS6 (io), 17 RXD (in), 18 TXD/PQS7 (io), 19 ADDR1 (io), 20 ADDR2 (io), 23 ADDR3 (io), 24 ADDR4 (io), 25 ADDR5 (io), 26 ADDR6 (io), 27 ADDR7 (io), 28 ADDR8 (io), 30 ADDR9 (io), 31 ADDR10 (io), 32 ADDR11 (io), 33 ADDR12 (io), 34 ADDR13 (io), 35 ADDR14 (io), 36 ADDR15 (io), 37 ADDR16 (io), 38 ADDR17 (io), 39 ADDR18 (io), 42 VDDA (power), 43 VSSA (power), 44 AN0/PADA0 (in), 45 AN1/PADA1 (in), 46 AN2/PADA2 (in), 47 AN3/PADA3 (in), 48 AN4/PADA4 (in), 49 AN5/PADA5 (in), 50 VRH (in), 51 VRL (in), 52 AN6/PADA6 (in), 53 AN7/PADA7 (in), 54 VSTBY (power), 55 XTAL (out), 56 VDDSYN (power), 57 EXTAL (in), 60 XFC, 63 CLKOUT (hiz), 64 FREEZE/QUOT (hiz), 65 TSC (in), 66 ~{BKPT}/DSCLK (in), 67 IPIPE0/DSO (hiz), 68 IPIPE1/DSI (io), 69 ~{RESET} (io), 70 ~{HALT} (io), 71 ~{BERR} (io), 72 ~{IRQ}7/PF7 (io), 73 ~{IRQ}6/PF6 (io), 74 ~{IRQ}5/PF5 (io), 75 ~{IRQ}4/PF4 (io), 76 ~{IRQ}3/PF3 (io), 77 ~{IRQ}2/PF2 (io), 78 ~{IRQ}1/PF1 (io), 79 MODCLK/PF0 (io), 80 R/~{W} (io), 81 SIZ1/PE7 (io), 82 SIZ0/PE6 (io), 85 ~{AS}/PE5 (io), 86 ~{DS}/PE4 (io), 87 ~{AVEC}/PE2 (io), 88 ~{DSACK}1/PE1 (io), 89 ~{DSACK}0/PE0 (io), 90 ADDR0 (io), 91 DATA15 (io), 92 DATA14 (io), 93 DATA13 (io), 94 DATA12 (io), 95 DATA11 (io), 96 DATA10 (io), 99 DATA9 (io), 100 DATA8 (io), 101 DATA7 (io), 102 DATA6 (io), 103 DATA5 (io), 104 DATA4 (io), 106 DATA3 (io), 107 DATA2 (io), 108 DATA1 (io), 109 DATA0 (io), 110 ~{CSBOOT} (hiz), 111 FC0/~{CS}3/PC0 (hiz), 114 FC1/~{CS}4/PC1 (hiz), 115 FC2/~{CS}5/PC2 (hiz), 116 ~{BR}/~{CS}0 (io), 117 ~{BG}/~{CS}1 (io), 118 ~{BGACK}/~{CS}2 (io), 119 ADDR19/~{CS}6/PC3 (hiz), 120 ADDR20/~{CS}7/PC4 (hiz), 121 ADDR21/~{CS}8/PC5 (hiz), 122 ADDR22/~{CS}9/PC6 (hiz), 123 ADDR23/~{CS}10/ECLK (hiz), 126 PCLK (in), 127 PWMB (hiz), 128 PWMA (hiz), 129 PAI (in), 130 IC4/OC5/OC1/PGP7 (io), 131 OC4/OC1/PGP6 (io), 132 OC3/OC1/PGP5 (io)
part B pins: 1 VDD (power), 2 VSS (power), 8 VDD (power), 9 VSS (power), 21 VDD (power), 22 VSS (power), 29 VSS (power), 40 VDD (power), 41 VSS (power), 58 VSS (power), 59 VDD (power), 61 VDD (power), 62 VSS (power), 83 VSS (power), 84 VDD (power), 97 VSS (power), 98 VDD (power), 105 VSS (power), 112 VSS (power), 113 VDD (power), 124 VDD (power), 125 VSS (power)

## MC68HC16Z2VFC25
designator U?
M68HC16 Z-Series MCU; Published: 21-Mar-2003; DatasheetVersion: Oct-1997; PackageVersion: 1997; PackageReference: 831A-01; Publisher: Altium Limited; PackageDescription: PQFP; 132 Leads; Body 24 x 24 mm; Pitch 0.635 mm; ComponentLink1Description: Manufacturer Link; ComponentLink1URL: http://www.freescale.com/; ComponentLink2Description: Datasheet; ComponentLink2URL: http://www.freescale.com/files/microcontrollers/doc/user_guide/MC68HC16ZUM.pdf; ComponentLink3Description: Instruction Set; ComponentLink3URL: http://www.freescale.com/files/microcontrollers/doc/ref_manual/CPU16RM.pdf
footprint 831A-01 (PQFP; 132 Leads; Body 24 x 24 mm; Pitch 0.635 mm)
part A pins: 3 OC2/OC1/PGP4 (io), 4 OC1/PGP3 (io), 5 IC3/PGP2 (io), 6 IC2/PGP1 (io), 7 IC1/PGP0 (io), 10 MISO/PQS0 (io), 11 MOSI/PQS1 (io), 12 SCK/PQS2 (io), 13 PCS0/~{SS}/PQS3 (io), 14 PCS1/PQS4 (io), 15 PCS2/PQS5 (io), 16 PCS3/PQS6 (io), 17 RXD (in), 18 TXD/PQS7 (io), 19 ADDR1 (io), 20 ADDR2 (io), 23 ADDR3 (io), 24 ADDR4 (io), 25 ADDR5 (io), 26 ADDR6 (io), 27 ADDR7 (io), 28 ADDR8 (io), 30 ADDR9 (io), 31 ADDR10 (io), 32 ADDR11 (io), 33 ADDR12 (io), 34 ADDR13 (io), 35 ADDR14 (io), 36 ADDR15 (io), 37 ADDR16 (io), 38 ADDR17 (io), 39 ADDR18 (io), 42 VDDA (power), 43 VSSA (power), 44 AN0/PADA0 (in), 45 AN1/PADA1 (in), 46 AN2/PADA2 (in), 47 AN3/PADA3 (in), 48 AN4/PADA4 (in), 49 AN5/PADA5 (in), 50 VRH (in), 51 VRL (in), 52 AN6/PADA6 (in), 53 AN7/PADA7 (in), 54 VSTBY (power), 55 XTAL (out), 56 VDDSYN (power), 57 EXTAL (in), 60 XFC, 63 CLKOUT (hiz), 64 FREEZE/QUOT (hiz), 65 TSC (in), 66 ~{BKPT}/DSCLK (in), 67 IPIPE0/DSO (hiz), 68 IPIPE1/DSI (io), 69 ~{RESET} (io), 70 ~{HALT} (io), 71 ~{BERR} (io), 72 ~{IRQ}7/PF7 (io), 73 ~{IRQ}6/PF6 (io), 74 ~{IRQ}5/PF5 (io), 75 ~{IRQ}4/PF4 (io), 76 ~{IRQ}3/PF3 (io), 77 ~{IRQ}2/PF2 (io), 78 ~{IRQ}1/PF1 (io), 79 MODCLK/PF0 (io), 80 R/~{W} (io), 81 SIZ1/PE7 (io), 82 SIZ0/PE6 (io), 85 ~{AS}/PE5 (io), 86 ~{DS}/PE4 (io), 87 ~{AVEC}/PE2 (io), 88 ~{DSACK}1/PE1 (io), 89 ~{DSACK}0/PE0 (io), 90 ADDR0 (io), 91 DATA15 (io), 92 DATA14 (io), 93 DATA13 (io), 94 DATA12 (io), 95 DATA11 (io), 96 DATA10 (io), 99 DATA9 (io), 100 DATA8 (io), 101 DATA7 (io), 102 DATA6 (io), 103 DATA5 (io), 104 DATA4 (io), 106 DATA3 (io), 107 DATA2 (io), 108 DATA1 (io), 109 DATA0 (io), 110 ~{CSBOOT} (hiz), 111 FC0/~{CS}3/PC0 (hiz), 114 FC1/~{CS}4/PC1 (hiz), 115 FC2/~{CS}5/PC2 (hiz), 116 ~{BR}/~{CS}0 (io), 117 ~{BG}/~{CS}1 (io), 118 ~{BGACK}/~{CS}2 (io), 119 ADDR19/~{CS}6/PC3 (hiz), 120 ADDR20/~{CS}7/PC4 (hiz), 121 ADDR21/~{CS}8/PC5 (hiz), 122 ADDR22/~{CS}9/PC6 (hiz), 123 ADDR23/~{CS}10/ECLK (hiz), 126 PCLK (in), 127 PWMB (hiz), 128 PWMA (hiz), 129 PAI (in), 130 IC4/OC5/OC1/PGP7 (io), 131 OC4/OC1/PGP6 (io), 132 OC3/OC1/PGP5 (io)
part B pins: 1 VDD (power), 2 VSS (power), 8 VDD (power), 9 VSS (power), 21 VDD (power), 22 VSS (power), 29 VSS (power), 40 VDD (power), 41 VSS (power), 58 VSS (power), 59 VDD (power), 61 VDD (power), 62 VSS (power), 83 VSS (power), 84 VDD (power), 97 VSS (power), 98 VDD (power), 105 VSS (power), 112 VSS (power), 113 VDD (power), 124 VDD (power), 125 VSS (power)

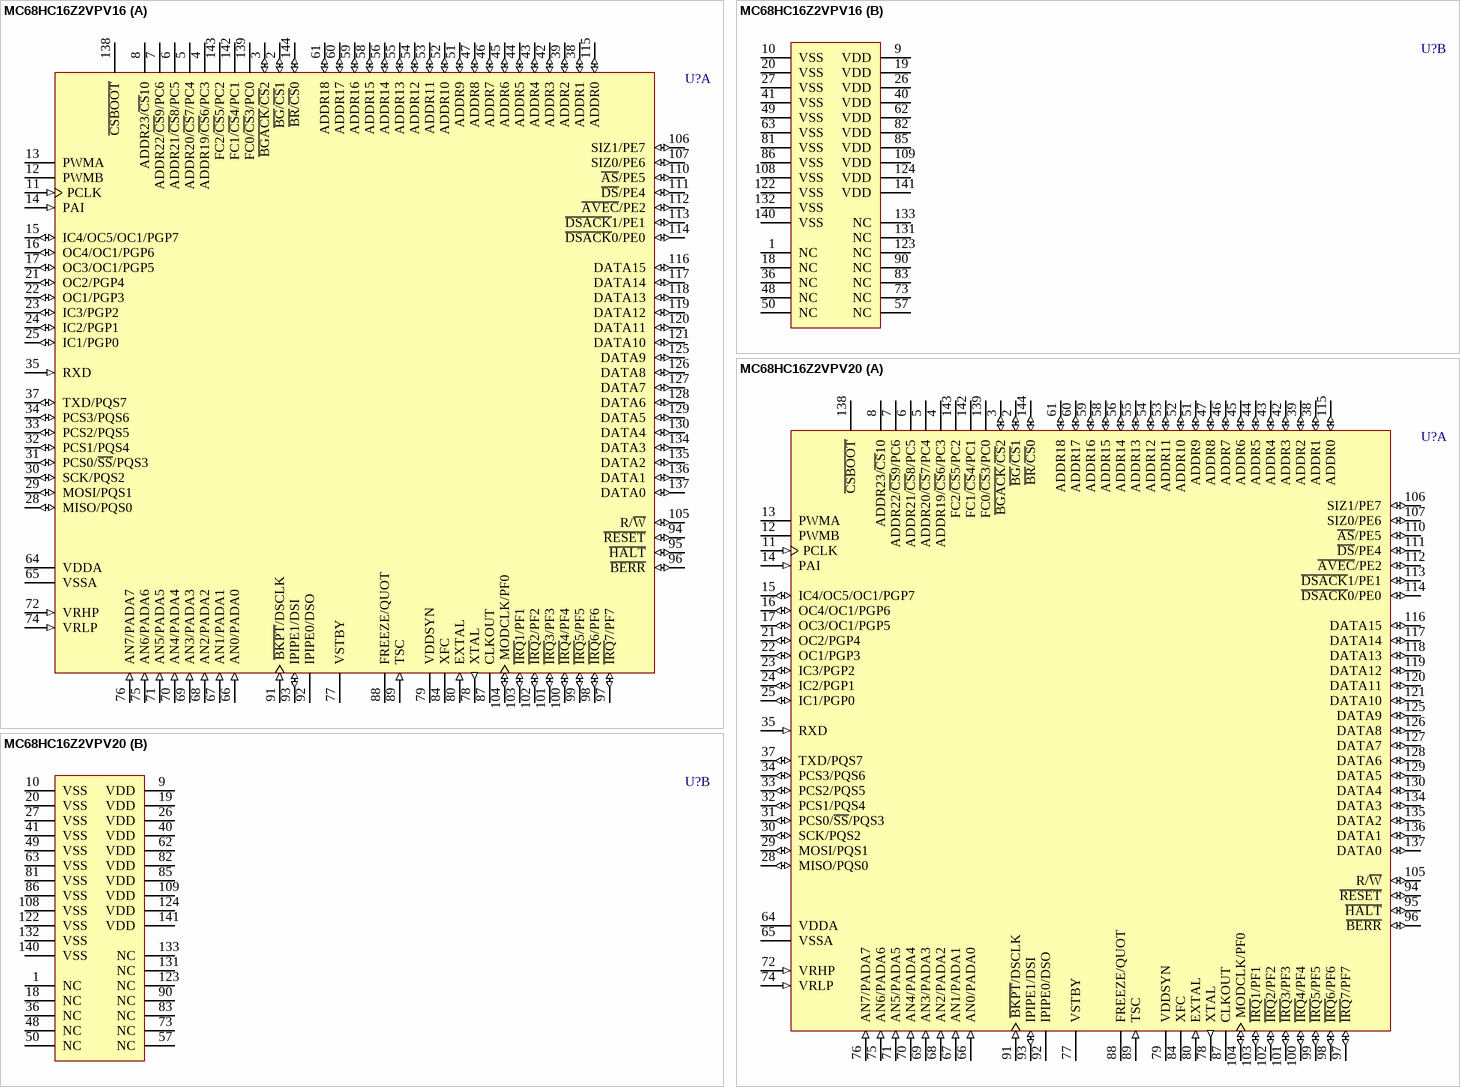
[diagram p34: symbols MC68HC16Z2VPV16 to MC68HC16Z2VPV20]

## MC68HC16Z2VPV16
designator U?
M68HC16 Z-Series MCU; Published: 21-Mar-2003; LatestRevisionDate: 13-Apr-2006; LatestRevisionNote: IPC-7351 Footprint Added.; DatasheetVersion: Oct-1997; PackageVersion: 1997; PackageReference: 918; Publisher: Altium Limited; PackageDescription: 144-Pin Thin Quad Flat Pack 0.5 mm Pitch; ComponentLink1Description: Manufacturer Link; ComponentLink1URL: http://www.freescale.com/; ComponentLink2Description: Datasheet; ComponentLink2URL: http://www.freescale.com/files/microcontrollers/doc/user_guide/MC68HC16ZUM.pdf; ComponentLink3Description: Instruction Set; ComponentLink3URL: http://www.freescale.com/files/microcontrollers/doc/ref_manual/CPU16RM.pdf
footprint 918_N (Thin QFP, 144-Leads, Body 20x20mm, Pitch 0.5mm, IPC Medium Density)
footprint 918_L (Thin QFP, 144-Leads, Body 20x20mm, Pitch 0.5mm, IPC High Density)
footprint 918_M (Thin QFP, 144-Leads, Body 20x20mm, Pitch 0.5mm, IPC Low Density)
3D model MC68HC16-918 (144-Pin Thin Quad Flat Pack 0.5 mm Pitch)
part A pins: 2 ~{BG}/~{CS}1 (io), 3 ~{BGACK}/~{CS}2 (io), 4 ADDR19/~{CS}6/PC3 (hiz), 5 ADDR20/~{CS}7/PC4 (hiz), 6 ADDR21/~{CS}8/PC5 (hiz), 7 ADDR22/~{CS}9/PC6 (hiz), 8 ADDR23/~{CS}10 (hiz), 11 PCLK (in), 12 PWMB (hiz), 13 PWMA (hiz), 14 PAI (in), 15 IC4/OC5/OC1/PGP7 (io), 16 OC4/OC1/PGP6 (io), 17 OC3/OC1/PGP5 (io), 21 OC2/PGP4 (io), 22 OC1/PGP3 (io), 23 IC3/PGP2 (io), 24 IC2/PGP1 (io), 25 IC1/PGP0 (io), 28 MISO/PQS0 (io), 29 MOSI/PQS1 (io), 30 SCK/PQS2 (io), 31 PCS0/~{SS}/PQS3 (io), 32 PCS1/PQS4 (io), 33 PCS2/PQS5 (io), 34 PCS3/PQS6 (io), 35 RXD (in), 37 TXD/PQS7 (io), 38 ADDR1 (io), 39 ADDR2 (io), 42 ADDR3 (io), 43 ADDR4 (io), 44 ADDR5 (io), 45 ADDR6 (io), 46 ADDR7 (io), 47 ADDR8 (io), 51 ADDR9 (io), 52 ADDR10 (io), 53 ADDR11 (io), 54 ADDR12 (io), 55 ADDR13 (io), 56 ADDR14 (io), 58 ADDR15 (io), 59 ADDR16 (io), 60 ADDR17 (io), 61 ADDR18 (io), 64 VDDA (power), 65 VSSA (power), 66 AN0/PADA0 (in), 67 AN1/PADA1 (in), 68 AN2/PADA2 (in), 69 AN3/PADA3 (in), 70 AN4/PADA4 (in), 71 AN5/PADA5 (in), 72 VRHP (in), 74 VRLP (in), 75 AN6/PADA6 (in), 76 AN7/PADA7 (in), 77 VSTBY (power), 78 XTAL (out), 79 VDDSYN (power), 80 EXTAL (in), 84 XFC, 87 CLKOUT (hiz), 88 FREEZE/QUOT (hiz), 89 TSC (in), 91 ~{BKPT}/DSCLK (in), 92 IPIPE0/DSO (hiz), 93 IPIPE1/DSI (io), 94 ~{RESET} (io), 95 ~{HALT} (io), 96 ~{BERR} (io), 97 ~{IRQ}7/PF7 (io), 98 ~{IRQ}6/PF6 (io), 99 ~{IRQ}5/PF5 (io), 100 ~{IRQ}4/PF4 (io), 101 ~{IRQ}3/PF3 (io), 102 ~{IRQ}2/PF2 (io), 103 ~{IRQ}1/PF1 (io), 104 MODCLK/PF0 (io), 105 R/~{W} (io), 106 SIZ1/PE7 (io), 107 SIZ0/PE6 (io), 110 ~{AS}/PE5 (io), 111 ~{DS}/PE4 (io), 112 ~{AVEC}/PE2 (io), 113 ~{DSACK}1/PE1 (io), 114 ~{DSACK}0/PE0 (io), 115 ADDR0 (io), 116 DATA15 (io), 117 DATA14 (io), 118 DATA13 (io), 119 DATA12 (io), 120 DATA11 (io), 121 DATA10 (io), 125 DATA9 (io), 126 DATA8 (io), 127 DATA7 (io), 128 DATA6 (io), 129 DATA5 (io), 130 DATA4 (io), 134 DATA3 (io), 135 DATA2 (io), 136 DATA1 (io), 137 DATA0 (io), 138 ~{CSBOOT} (hiz), 139 FC0/~{CS}3/PC0 (hiz), 142 FC1/~{CS}4/PC1 (hiz), 143 FC2/~{CS}5/PC2 (hiz), 144 ~{BR}/~{CS}0 (io)
part B pins: 1 NC, 9 VDD (power), 10 VSS (power), 18 NC, 19 VDD (power), 20 VSS (power), 26 VDD (power), 27 VSS (power), 36 NC, 40 VDD (power), 41 VSS (power), 48 NC, 49 VSS (power), 50 NC, 57 NC, 62 VDD (power), 63 VSS (power), 73 NC, 81 VSS (power), 82 VDD (power), 83 NC, 85 VDD (power), 86 VSS (power), 90 NC, 108 VSS (power), 109 VDD (power), 122 VSS (power), 123 NC, 124 VDD (power), 131 NC, 132 VSS (power), 133 NC, 140 VSS (power), 141 VDD (power)

## MC68HC16Z2VPV20
designator U?
M68HC16 Z-Series MCU; Published: 21-Mar-2003; LatestRevisionDate: 13-Apr-2006; LatestRevisionNote: IPC-7351 Footprint Added.; DatasheetVersion: Oct-1997; PackageVersion: 1997; PackageReference: 918; Publisher: Altium Limited; PackageDescription: 144-Pin Thin Quad Flat Pack 0.5 mm Pitch; ComponentLink1Description: Manufacturer Link; ComponentLink1URL: http://www.freescale.com/; ComponentLink2Description: Datasheet; ComponentLink2URL: http://www.freescale.com/files/microcontrollers/doc/user_guide/MC68HC16ZUM.pdf; ComponentLink3Description: Instruction Set; ComponentLink3URL: http://www.freescale.com/files/microcontrollers/doc/ref_manual/CPU16RM.pdf
footprint 918_N (Thin QFP, 144-Leads, Body 20x20mm, Pitch 0.5mm, IPC Medium Density)
footprint 918_L (Thin QFP, 144-Leads, Body 20x20mm, Pitch 0.5mm, IPC High Density)
footprint 918_M (Thin QFP, 144-Leads, Body 20x20mm, Pitch 0.5mm, IPC Low Density)
3D model MC68HC16-918 (144-Pin Thin Quad Flat Pack 0.5 mm Pitch)
part A pins: 2 ~{BG}/~{CS}1 (io), 3 ~{BGACK}/~{CS}2 (io), 4 ADDR19/~{CS}6/PC3 (hiz), 5 ADDR20/~{CS}7/PC4 (hiz), 6 ADDR21/~{CS}8/PC5 (hiz), 7 ADDR22/~{CS}9/PC6 (hiz), 8 ADDR23/~{CS}10 (hiz), 11 PCLK (in), 12 PWMB (hiz), 13 PWMA (hiz), 14 PAI (in), 15 IC4/OC5/OC1/PGP7 (io), 16 OC4/OC1/PGP6 (io), 17 OC3/OC1/PGP5 (io), 21 OC2/PGP4 (io), 22 OC1/PGP3 (io), 23 IC3/PGP2 (io), 24 IC2/PGP1 (io), 25 IC1/PGP0 (io), 28 MISO/PQS0 (io), 29 MOSI/PQS1 (io), 30 SCK/PQS2 (io), 31 PCS0/~{SS}/PQS3 (io), 32 PCS1/PQS4 (io), 33 PCS2/PQS5 (io), 34 PCS3/PQS6 (io), 35 RXD (in), 37 TXD/PQS7 (io), 38 ADDR1 (io), 39 ADDR2 (io), 42 ADDR3 (io), 43 ADDR4 (io), 44 ADDR5 (io), 45 ADDR6 (io), 46 ADDR7 (io), 47 ADDR8 (io), 51 ADDR9 (io), 52 ADDR10 (io), 53 ADDR11 (io), 54 ADDR12 (io), 55 ADDR13 (io), 56 ADDR14 (io), 58 ADDR15 (io), 59 ADDR16 (io), 60 ADDR17 (io), 61 ADDR18 (io), 64 VDDA (power), 65 VSSA (power), 66 AN0/PADA0 (in), 67 AN1/PADA1 (in), 68 AN2/PADA2 (in), 69 AN3/PADA3 (in), 70 AN4/PADA4 (in), 71 AN5/PADA5 (in), 72 VRHP (in), 74 VRLP (in), 75 AN6/PADA6 (in), 76 AN7/PADA7 (in), 77 VSTBY (power), 78 XTAL (out), 79 VDDSYN (power), 80 EXTAL (in), 84 XFC, 87 CLKOUT (hiz), 88 FREEZE/QUOT (hiz), 89 TSC (in), 91 ~{BKPT}/DSCLK (in), 92 IPIPE0/DSO (hiz), 93 IPIPE1/DSI (io), 94 ~{RESET} (io), 95 ~{HALT} (io), 96 ~{BERR} (io), 97 ~{IRQ}7/PF7 (io), 98 ~{IRQ}6/PF6 (io), 99 ~{IRQ}5/PF5 (io), 100 ~{IRQ}4/PF4 (io), 101 ~{IRQ}3/PF3 (io), 102 ~{IRQ}2/PF2 (io), 103 ~{IRQ}1/PF1 (io), 104 MODCLK/PF0 (io), 105 R/~{W} (io), 106 SIZ1/PE7 (io), 107 SIZ0/PE6 (io), 110 ~{AS}/PE5 (io), 111 ~{DS}/PE4 (io), 112 ~{AVEC}/PE2 (io), 113 ~{DSACK}1/PE1 (io), 114 ~{DSACK}0/PE0 (io), 115 ADDR0 (io), 116 DATA15 (io), 117 DATA14 (io), 118 DATA13 (io), 119 DATA12 (io), 120 DATA11 (io), 121 DATA10 (io), 125 DATA9 (io), 126 DATA8 (io), 127 DATA7 (io), 128 DATA6 (io), 129 DATA5 (io), 130 DATA4 (io), 134 DATA3 (io), 135 DATA2 (io), 136 DATA1 (io), 137 DATA0 (io), 138 ~{CSBOOT} (hiz), 139 FC0/~{CS}3/PC0 (hiz), 142 FC1/~{CS}4/PC1 (hiz), 143 FC2/~{CS}5/PC2 (hiz), 144 ~{BR}/~{CS}0 (io)
part B pins: 1 NC, 9 VDD (power), 10 VSS (power), 18 NC, 19 VDD (power), 20 VSS (power), 26 VDD (power), 27 VSS (power), 36 NC, 40 VDD (power), 41 VSS (power), 48 NC, 49 VSS (power), 50 NC, 57 NC, 62 VDD (power), 63 VSS (power), 73 NC, 81 VSS (power), 82 VDD (power), 83 NC, 85 VDD (power), 86 VSS (power), 90 NC, 108 VSS (power), 109 VDD (power), 122 VSS (power), 123 NC, 124 VDD (power), 131 NC, 132 VSS (power), 133 NC, 140 VSS (power), 141 VDD (power)

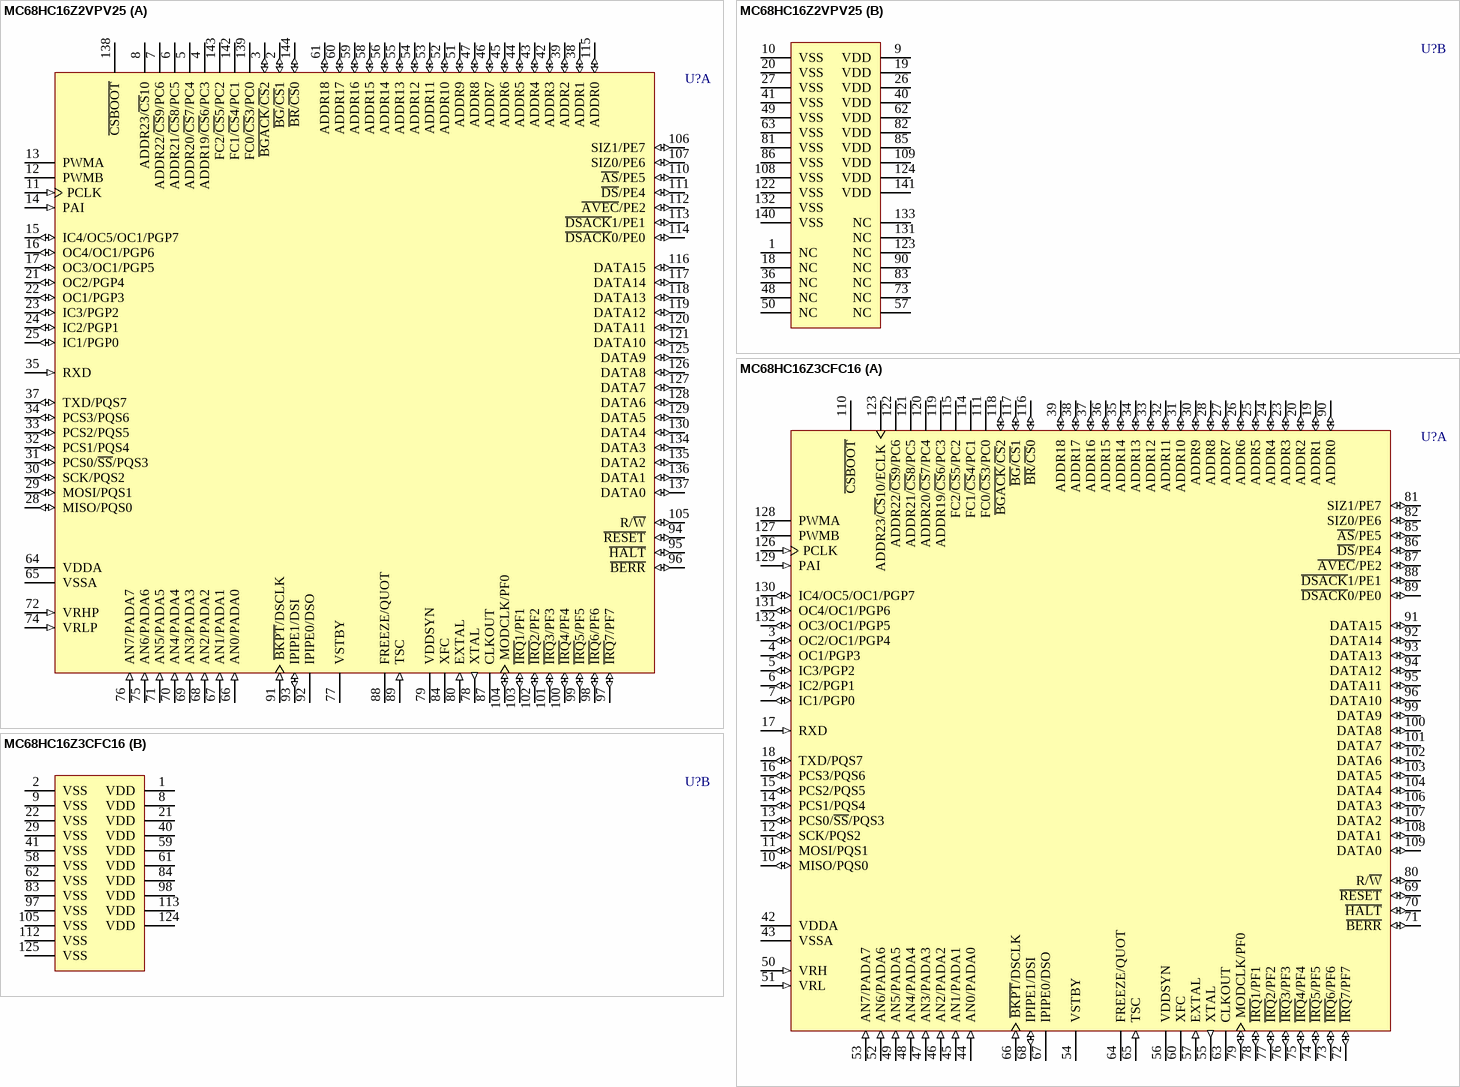
[diagram p35: symbols MC68HC16Z2VPV25 to MC68HC16Z3CFC16]

## MC68HC16Z2VPV25
designator U?
M68HC16 Z-Series MCU; Published: 21-Mar-2003; LatestRevisionDate: 13-Apr-2006; LatestRevisionNote: IPC-7351 Footprint Added.; DatasheetVersion: Oct-1997; PackageVersion: 1997; PackageReference: 918; Publisher: Altium Limited; PackageDescription: 144-Pin Thin Quad Flat Pack 0.5 mm Pitch; ComponentLink1Description: Manufacturer Link; ComponentLink1URL: http://www.freescale.com/; ComponentLink2Description: Datasheet; ComponentLink2URL: http://www.freescale.com/files/microcontrollers/doc/user_guide/MC68HC16ZUM.pdf; ComponentLink3Description: Instruction Set; ComponentLink3URL: http://www.freescale.com/files/microcontrollers/doc/ref_manual/CPU16RM.pdf
footprint 918_N (Thin QFP, 144-Leads, Body 20x20mm, Pitch 0.5mm, IPC Medium Density)
footprint 918_L (Thin QFP, 144-Leads, Body 20x20mm, Pitch 0.5mm, IPC High Density)
footprint 918_M (Thin QFP, 144-Leads, Body 20x20mm, Pitch 0.5mm, IPC Low Density)
3D model MC68HC16-918 (144-Pin Thin Quad Flat Pack 0.5 mm Pitch)
part A pins: 2 ~{BG}/~{CS}1 (io), 3 ~{BGACK}/~{CS}2 (io), 4 ADDR19/~{CS}6/PC3 (hiz), 5 ADDR20/~{CS}7/PC4 (hiz), 6 ADDR21/~{CS}8/PC5 (hiz), 7 ADDR22/~{CS}9/PC6 (hiz), 8 ADDR23/~{CS}10 (hiz), 11 PCLK (in), 12 PWMB (hiz), 13 PWMA (hiz), 14 PAI (in), 15 IC4/OC5/OC1/PGP7 (io), 16 OC4/OC1/PGP6 (io), 17 OC3/OC1/PGP5 (io), 21 OC2/PGP4 (io), 22 OC1/PGP3 (io), 23 IC3/PGP2 (io), 24 IC2/PGP1 (io), 25 IC1/PGP0 (io), 28 MISO/PQS0 (io), 29 MOSI/PQS1 (io), 30 SCK/PQS2 (io), 31 PCS0/~{SS}/PQS3 (io), 32 PCS1/PQS4 (io), 33 PCS2/PQS5 (io), 34 PCS3/PQS6 (io), 35 RXD (in), 37 TXD/PQS7 (io), 38 ADDR1 (io), 39 ADDR2 (io), 42 ADDR3 (io), 43 ADDR4 (io), 44 ADDR5 (io), 45 ADDR6 (io), 46 ADDR7 (io), 47 ADDR8 (io), 51 ADDR9 (io), 52 ADDR10 (io), 53 ADDR11 (io), 54 ADDR12 (io), 55 ADDR13 (io), 56 ADDR14 (io), 58 ADDR15 (io), 59 ADDR16 (io), 60 ADDR17 (io), 61 ADDR18 (io), 64 VDDA (power), 65 VSSA (power), 66 AN0/PADA0 (in), 67 AN1/PADA1 (in), 68 AN2/PADA2 (in), 69 AN3/PADA3 (in), 70 AN4/PADA4 (in), 71 AN5/PADA5 (in), 72 VRHP (in), 74 VRLP (in), 75 AN6/PADA6 (in), 76 AN7/PADA7 (in), 77 VSTBY (power), 78 XTAL (out), 79 VDDSYN (power), 80 EXTAL (in), 84 XFC, 87 CLKOUT (hiz), 88 FREEZE/QUOT (hiz), 89 TSC (in), 91 ~{BKPT}/DSCLK (in), 92 IPIPE0/DSO (hiz), 93 IPIPE1/DSI (io), 94 ~{RESET} (io), 95 ~{HALT} (io), 96 ~{BERR} (io), 97 ~{IRQ}7/PF7 (io), 98 ~{IRQ}6/PF6 (io), 99 ~{IRQ}5/PF5 (io), 100 ~{IRQ}4/PF4 (io), 101 ~{IRQ}3/PF3 (io), 102 ~{IRQ}2/PF2 (io), 103 ~{IRQ}1/PF1 (io), 104 MODCLK/PF0 (io), 105 R/~{W} (io), 106 SIZ1/PE7 (io), 107 SIZ0/PE6 (io), 110 ~{AS}/PE5 (io), 111 ~{DS}/PE4 (io), 112 ~{AVEC}/PE2 (io), 113 ~{DSACK}1/PE1 (io), 114 ~{DSACK}0/PE0 (io), 115 ADDR0 (io), 116 DATA15 (io), 117 DATA14 (io), 118 DATA13 (io), 119 DATA12 (io), 120 DATA11 (io), 121 DATA10 (io), 125 DATA9 (io), 126 DATA8 (io), 127 DATA7 (io), 128 DATA6 (io), 129 DATA5 (io), 130 DATA4 (io), 134 DATA3 (io), 135 DATA2 (io), 136 DATA1 (io), 137 DATA0 (io), 138 ~{CSBOOT} (hiz), 139 FC0/~{CS}3/PC0 (hiz), 142 FC1/~{CS}4/PC1 (hiz), 143 FC2/~{CS}5/PC2 (hiz), 144 ~{BR}/~{CS}0 (io)
part B pins: 1 NC, 9 VDD (power), 10 VSS (power), 18 NC, 19 VDD (power), 20 VSS (power), 26 VDD (power), 27 VSS (power), 36 NC, 40 VDD (power), 41 VSS (power), 48 NC, 49 VSS (power), 50 NC, 57 NC, 62 VDD (power), 63 VSS (power), 73 NC, 81 VSS (power), 82 VDD (power), 83 NC, 85 VDD (power), 86 VSS (power), 90 NC, 108 VSS (power), 109 VDD (power), 122 VSS (power), 123 NC, 124 VDD (power), 131 NC, 132 VSS (power), 133 NC, 140 VSS (power), 141 VDD (power)

## MC68HC16Z3CFC16
designator U?
M68HC16 Z-Series MCU; Published: 21-Mar-2003; DatasheetVersion: Oct-1997; PackageVersion: 1997; PackageReference: 831A-01; Publisher: Altium Limited; PackageDescription: PQFP; 132 Leads; Body 24 x 24 mm; Pitch 0.635 mm; ComponentLink1Description: Manufacturer Link; ComponentLink1URL: http://www.freescale.com/; ComponentLink2Description: Datasheet; ComponentLink2URL: http://www.freescale.com/files/microcontrollers/doc/user_guide/MC68HC16ZUM.pdf; ComponentLink3Description: Instruction Set; ComponentLink3URL: http://www.freescale.com/files/microcontrollers/doc/ref_manual/CPU16RM.pdf
footprint 831A-01 (PQFP; 132 Leads; Body 24 x 24 mm; Pitch 0.635 mm)
part A pins: 3 OC2/OC1/PGP4 (io), 4 OC1/PGP3 (io), 5 IC3/PGP2 (io), 6 IC2/PGP1 (io), 7 IC1/PGP0 (io), 10 MISO/PQS0 (io), 11 MOSI/PQS1 (io), 12 SCK/PQS2 (io), 13 PCS0/~{SS}/PQS3 (io), 14 PCS1/PQS4 (io), 15 PCS2/PQS5 (io), 16 PCS3/PQS6 (io), 17 RXD (in), 18 TXD/PQS7 (io), 19 ADDR1 (io), 20 ADDR2 (io), 23 ADDR3 (io), 24 ADDR4 (io), 25 ADDR5 (io), 26 ADDR6 (io), 27 ADDR7 (io), 28 ADDR8 (io), 30 ADDR9 (io), 31 ADDR10 (io), 32 ADDR11 (io), 33 ADDR12 (io), 34 ADDR13 (io), 35 ADDR14 (io), 36 ADDR15 (io), 37 ADDR16 (io), 38 ADDR17 (io), 39 ADDR18 (io), 42 VDDA (power), 43 VSSA (power), 44 AN0/PADA0 (in), 45 AN1/PADA1 (in), 46 AN2/PADA2 (in), 47 AN3/PADA3 (in), 48 AN4/PADA4 (in), 49 AN5/PADA5 (in), 50 VRH (in), 51 VRL (in), 52 AN6/PADA6 (in), 53 AN7/PADA7 (in), 54 VSTBY (power), 55 XTAL (out), 56 VDDSYN (power), 57 EXTAL (in), 60 XFC, 63 CLKOUT (hiz), 64 FREEZE/QUOT (hiz), 65 TSC (in), 66 ~{BKPT}/DSCLK (in), 67 IPIPE0/DSO (hiz), 68 IPIPE1/DSI (io), 69 ~{RESET} (io), 70 ~{HALT} (io), 71 ~{BERR} (io), 72 ~{IRQ}7/PF7 (io), 73 ~{IRQ}6/PF6 (io), 74 ~{IRQ}5/PF5 (io), 75 ~{IRQ}4/PF4 (io), 76 ~{IRQ}3/PF3 (io), 77 ~{IRQ}2/PF2 (io), 78 ~{IRQ}1/PF1 (io), 79 MODCLK/PF0 (io), 80 R/~{W} (io), 81 SIZ1/PE7 (io), 82 SIZ0/PE6 (io), 85 ~{AS}/PE5 (io), 86 ~{DS}/PE4 (io), 87 ~{AVEC}/PE2 (io), 88 ~{DSACK}1/PE1 (io), 89 ~{DSACK}0/PE0 (io), 90 ADDR0 (io), 91 DATA15 (io), 92 DATA14 (io), 93 DATA13 (io), 94 DATA12 (io), 95 DATA11 (io), 96 DATA10 (io), 99 DATA9 (io), 100 DATA8 (io), 101 DATA7 (io), 102 DATA6 (io), 103 DATA5 (io), 104 DATA4 (io), 106 DATA3 (io), 107 DATA2 (io), 108 DATA1 (io), 109 DATA0 (io), 110 ~{CSBOOT} (hiz), 111 FC0/~{CS}3/PC0 (hiz), 114 FC1/~{CS}4/PC1 (hiz), 115 FC2/~{CS}5/PC2 (hiz), 116 ~{BR}/~{CS}0 (io), 117 ~{BG}/~{CS}1 (io), 118 ~{BGACK}/~{CS}2 (io), 119 ADDR19/~{CS}6/PC3 (hiz), 120 ADDR20/~{CS}7/PC4 (hiz), 121 ADDR21/~{CS}8/PC5 (hiz), 122 ADDR22/~{CS}9/PC6 (hiz), 123 ADDR23/~{CS}10/ECLK (hiz), 126 PCLK (in), 127 PWMB (hiz), 128 PWMA (hiz), 129 PAI (in), 130 IC4/OC5/OC1/PGP7 (io), 131 OC4/OC1/PGP6 (io), 132 OC3/OC1/PGP5 (io)
part B pins: 1 VDD (power), 2 VSS (power), 8 VDD (power), 9 VSS (power), 21 VDD (power), 22 VSS (power), 29 VSS (power), 40 VDD (power), 41 VSS (power), 58 VSS (power), 59 VDD (power), 61 VDD (power), 62 VSS (power), 83 VSS (power), 84 VDD (power), 97 VSS (power), 98 VDD (power), 105 VSS (power), 112 VSS (power), 113 VDD (power), 124 VDD (power), 125 VSS (power)

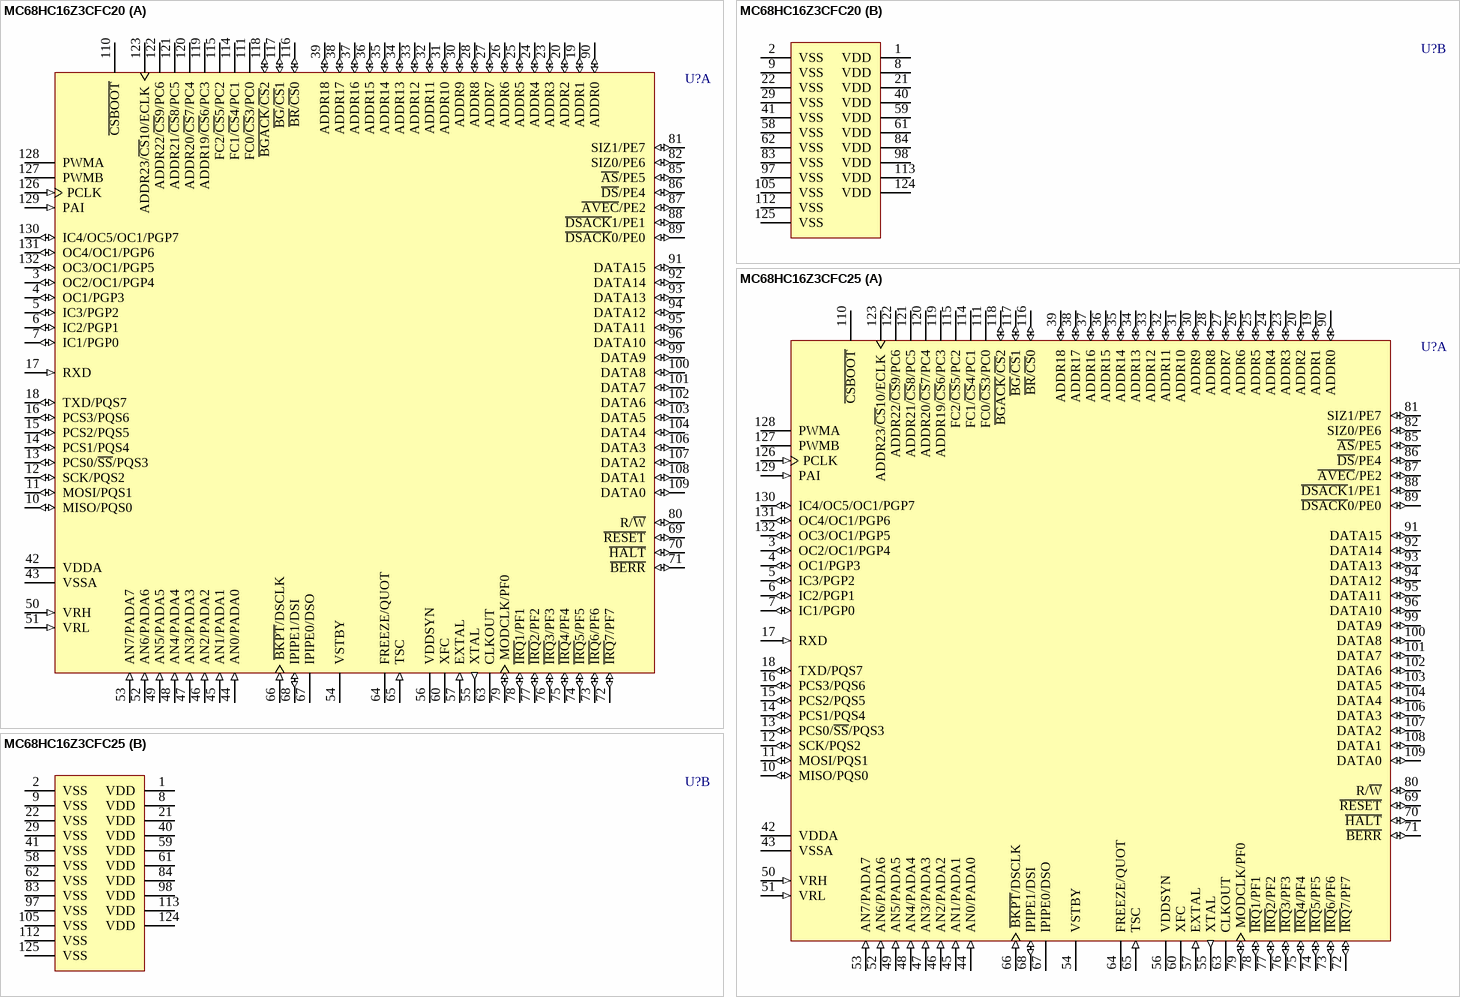
[diagram p36: symbols MC68HC16Z3CFC20 to MC68HC16Z3CFC25]